# Altium schematic symbol library ulysses_library.SchLib: 185 symbols (part 1 of 2)
Pins are listed as number, name and electrical type; pins without a type are passive.

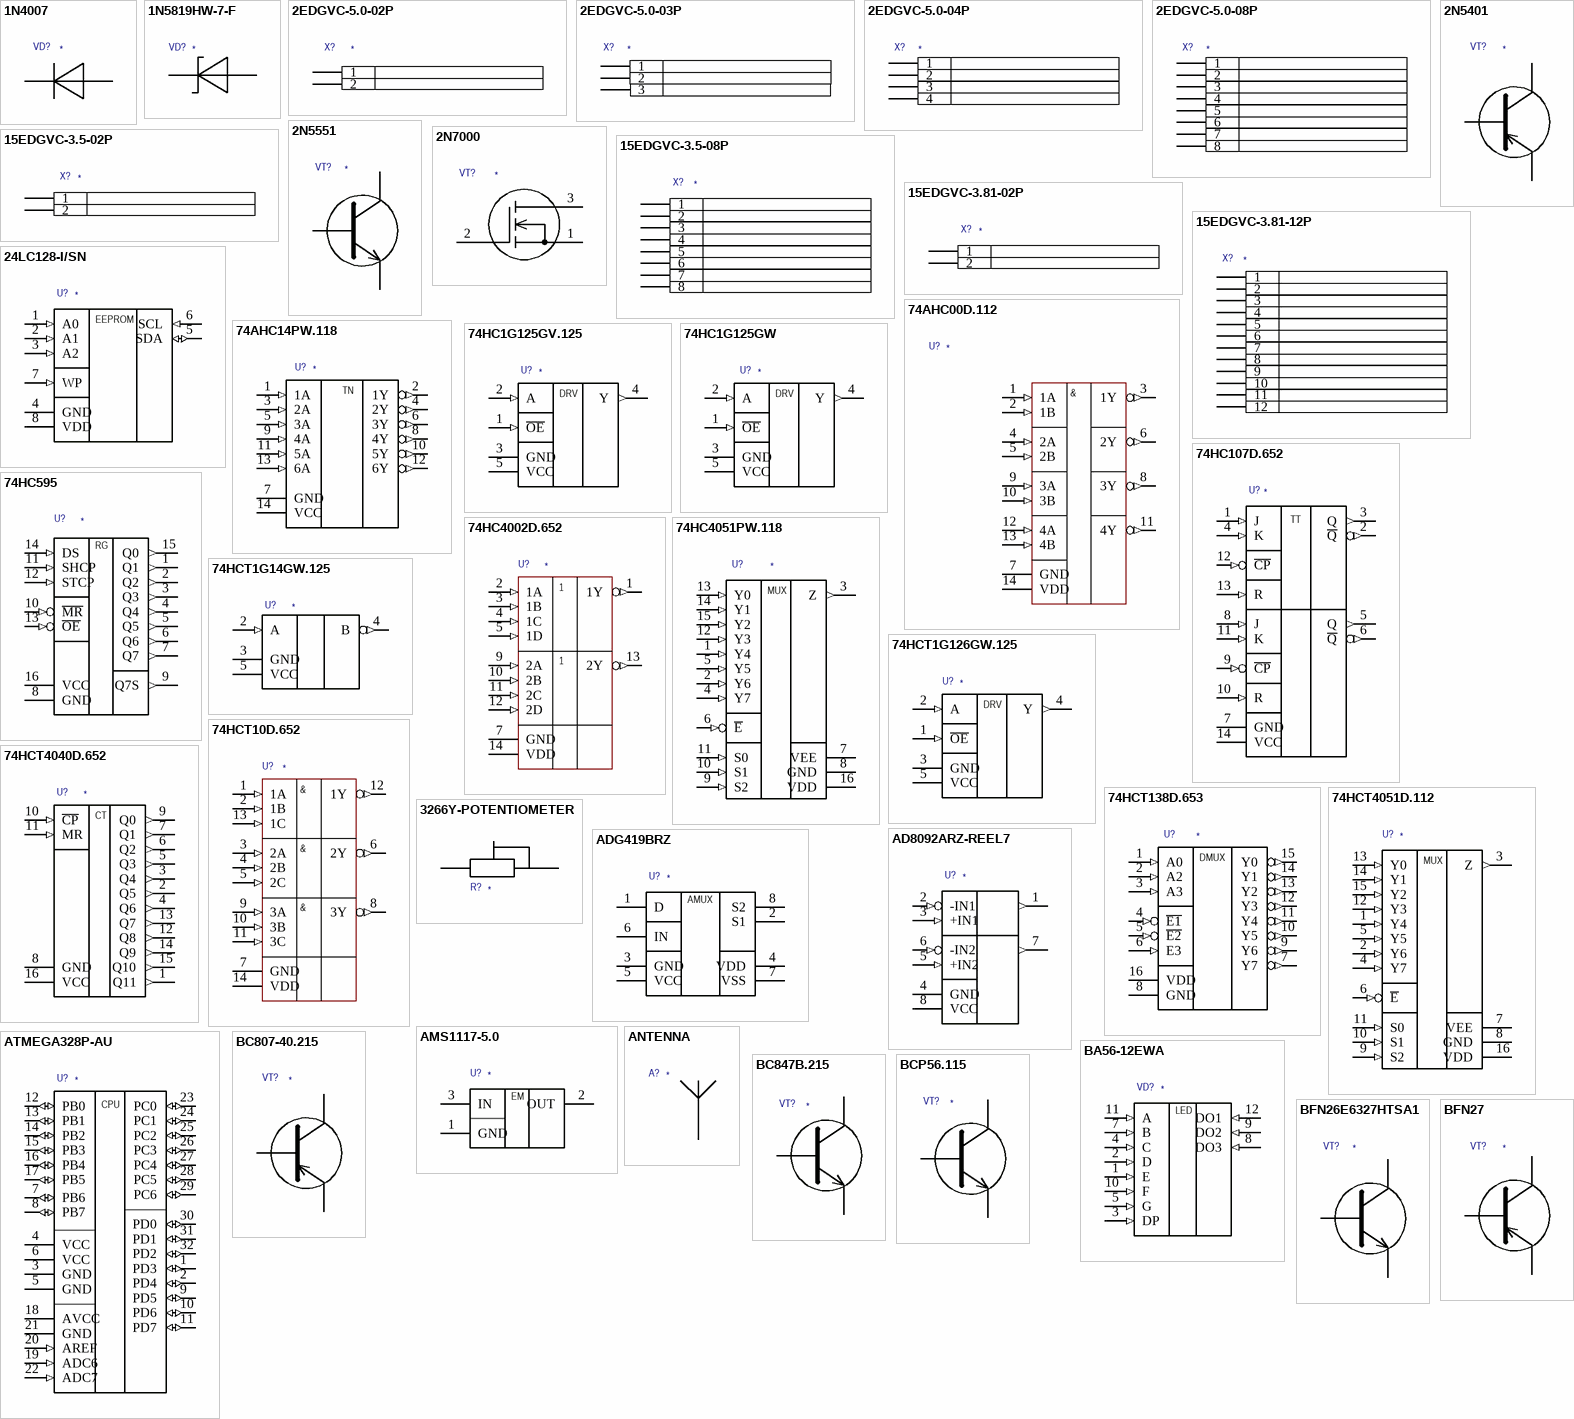
[diagram p0: symbols 1N4007 to BFN27]

## 1N4007
designator VD?
footprint P6KE27CA
pins: A, K

## 1N5819HW-7-F
designator VD?
Диод Шоттки; Ref: http://www.kosmodrom.com.ua/el.php?name=1N5819HW-7-F
footprint SODFL370X135-2N (SODFL, 2-Leads, Body 1,55x3,70mm, IPC Medium Density)
pins: 1 C, 2 A

## 2EDGVC-5.0-02P
designator X?
footprint 2EDGVC-5.0-02P
pins: 1, 2

## 2EDGVC-5.0-03P
designator X?
footprint 2EDGVC-5.0-03P
pins: 1, 2, 3

## 2EDGVC-5.0-04P
designator X?
footprint 2EDGVC-5.0-04P
pins: 1, 2, 3, 4

## 2EDGVC-5.0-08P
designator X?
footprint 2EDGVC-5.0-08P
pins: 1, 2, 3, 4, 5, 6, 7, 8

## 2N5401
designator VT?
PNP биполярный транзистор
footprint TO-92
pins: 1 E (power), 2 B (power), 3 C (power)

## 2N5551
designator VT?
NPN биполярный транзистор
footprint TO-92
pins: 1 E (power), 2 B (power), 3 C (power)

## 2N7000
designator VT?
N MOSFET
footprint TO-92
pins: 1 S (power), 2 G (power), 3 D (power)

## 15EDGVC-3.5-02P
designator X?
footprint 15EDGVC-3.5-02P
pins: 1, 2

## 15EDGVC-3.5-08P
designator X?
footprint 15EDGVC-3.5-08P
pins: 1, 2, 3, 4, 5, 6, 7, 8

## 15EDGVC-3.81-02P
designator X?
footprint 15EDGVC-3.81-02P
pins: 1, 2

## 15EDGVC-3.81-12P
designator X?
footprint 15EDGVC-3.81-12P
pins: 1, 2, 3, 4, 5, 6, 7, 8, 9, 10, 11, 12

## 24LC128-I/SN
designator U?
Микросхема EEPROM 16Kx8; Ref: http://www.kosmodrom.com.ua/el.php?name=24LC128-I_SN
footprint SOIC127P600X175-8N (SOIC, 8-Leads, Body 4,90x3,90mm, Pitch 1,27mm, IPC Medium Density)
pins: 1 A0 (in), 2 A1 (in), 3 A2 (in), 4 GND (power), 5 SDA (io), 6 SCL (in), 7 WP (in), 8 VDD (power)
text: EEPROM

## 74AHC00D.112
designator U?
2И-НЕ 4 ВЕНТИЛЯ
footprint SOIC127P600X175-14N (SOIC, 14-Leads, Body 8,65x3,90mm, Pitch 1,27mm, IPC Medium Density)
pins: 1 1A (in), 2 1B (in), 3 1Y (out), 4 2A (in), 5 2B (in), 6 2Y (out), 7 GND (power), 8 3Y (out), 9 3A (in), 10 3B (in), 11 4Y (out), 12 4A (in), 13 4B (in), 14 VDD (power)
text: &

## 74AHC14PW.118
designator U?
6 триггеров Шмитта
footprint TSOP65P640X110-14N (TSOP, 14-Leads, Body 5,00x4,40mm, Pitch 0,65mm, IPC Medium Density)
pins: 1 1A (in), 2 1Y (out), 3 2A (in), 4 2Y (out), 5 3A (in), 6 3Y (out), 7 GND (power), 8 4Y (out), 9 4A (in), 10 5Y (out), 11 5A (in), 12 6Y (out), 13 6A (in), 14 VCC (power)
text: TN

## 74HC1G125GV.125
designator U?
Line driver; Ref: http://www.kosmodrom.com.ua/el.php?name=74HC1G125GV.125
footprint SOT95P275X110-5N (SOT23, 5-Leads, Body 2,90x2,75mm, Pitch 0,95mm, IPC Medium Density)
pins: 1 ~{OE} (in), 2 A (in), 3 GND (power), 4 Y (out), 5 VCC (power)
text: DRV

## 74HC1G125GW
designator U?
Three state line driver; Ref: http://www.kosmodrom.com.ua/prodlist.php?page=0&name=74HC1G125GW&okbutton=%CF%EE%E8%F1%EA+%EF%EE+%F1%EA%EB%E0%E4%F3
footprint SOT65P212X110-5N (SOT23, 5-Leads, Body 2.03x2.13mm, Pitch 0.65mm, IPC Medium Density)
pins: 1 ~{OE} (in), 2 A (in), 3 GND (power), 4 Y (out), 5 VCC (power)
text: DRV

## 74HC107D.652
designator U?
Интегральная схема JK-триггер; Ref: http://www.kosmodrom.com.ua/el.php?name=74HC107D.652
footprint SOIC127P600X175-14N (SOIC, 14-Leads, Body 8,65x3,90mm, Pitch 1,27mm, IPC Medium Density)
pins: 1 J (in), 2 ~{Q} (out), 3 Q (out), 4 K (in), 5 Q (out), 6 ~{Q} (out), 7 GND (power), 8 J (in), 9 ~{CP} (in), 10 R (in), 11 K (in), 12 ~{CP} (in), 13 R (in), 14 VCC (power)
text: TT

## 74HC595
designator U?
footprint TSOP65P640X120-16N (TSOP, 16-Leads, Body 5.00x4.40mm, Pitch 0.65mm, IPC Medium Density)
footprint SOP127P700X210-16N (SOP, 16-Leads, Body 10.30x4.40mm, Pitch 1.27mm, IPC Medium Density)
pins: 1 Q1 (out), 2 Q2 (out), 3 Q3 (out), 4 Q4 (out), 5 Q5 (out), 6 Q6 (out), 7 Q7 (out), 8 GND (power), 9 Q7S (out), 10 ~{MR} (in), 11 SHCP (in), 12 STCP (in), 13 ~{OE} (in), 14 DS (in), 15 Q0 (out), 16 VCC (power)
text: RG

## 74HC4002D.652
designator U?
footprint SOIC127P600X175-14N (SOIC, 14-Leads, Body 8,65x3,90mm, Pitch 1,27mm, IPC Medium Density)
pins: 1 1Y (out), 2 1A (in), 3 1B (in), 4 1C (in), 5 1D (in), 7 GND (power), 9 2A (in), 10 2B (in), 11 2C (in), 12 2D (in), 13 2Y (out), 14 VDD (power)

## 74HC4051PW.118
designator U?
footprint TSOP65P640X120-16N (TSOP, 16-Leads, Body 5.00x4.40mm, Pitch 0.65mm, IPC Medium Density)
pins: 1 Y4 (in), 2 Y6 (in), 3 Z (out), 4 Y7 (in), 5 Y5 (in), 6 ~{E} (in), 7 VEE (power), 8 GND (power), 9 S2 (in), 10 S1 (in), 11 S0 (in), 12 Y3 (in), 13 Y0 (in), 14 Y1 (in), 15 Y2 (in), 16 VDD (power)
text: MUX

## 74HCT1G14GW.125
designator U?
инвертирующий триггер Шмитта
footprint SOT65P210X110-5N (SOT23, 5-Leads, Body 2,00x2,10mm, Pitch 0,65mm, IPC Medium Density)
pins: 2 A (in), 3 GND (power), 4 B (out), 5 VCC (power)

## 74HCT1G126GW.125
designator U?
footprint SOT65P212X110-5N (SOT23, 5-Leads, Body 2.03x2.13mm, Pitch 0.65mm, IPC Medium Density)
pins: 1 ~{OE} (in), 2 A (in), 3 GND (power), 4 Y (out), 5 VCC (power)
text: DRV

## 74HCT10D.652
designator U?
footprint SOIC127P600X175-14N (SOIC, 14-Leads, Body 8,65x3,90mm, Pitch 1,27mm, IPC Medium Density)
pins: 1 1A (in), 2 1B (in), 3 2A (in), 4 2B (in), 5 2C (in), 6 2Y (out), 7 GND (power), 8 3Y (out), 9 3A (in), 10 3B (in), 11 3C (in), 12 1Y (out), 13 1C (in), 14 VDD (power)
text: &

## 74HCT138D.653
designator U?
footprint SOP127P700X210-16N (SOP, 16-Leads, Body 10.30x4.40mm, Pitch 1.27mm, IPC Medium Density)
pins: 1 A0 (in), 2 A2 (in), 3 A3 (in), 4 ~{E1} (in), 5 ~{E2} (in), 6 E3 (in), 7 Y7 (out), 8 GND (power), 9 Y6 (out), 10 Y5 (out), 11 Y4 (out), 12 Y3 (out), 13 Y2 (out), 14 Y1 (out), 15 Y0 (out), 16 VDD (power)
text: DMUX

## 74HCT4040D.652
designator U?
Двоичный счетчик
footprint SOP127P700X210-16N (SOP, 16-Leads, Body 10.30x4.40mm, Pitch 1.27mm, IPC Medium Density)
pins: 1 Q11 (out), 2 Q5 (out), 3 Q4 (out), 4 Q6 (out), 5 Q3 (out), 6 Q2 (out), 7 Q1 (out), 8 GND, 9 Q0 (out), 10 ~{CP} (in), 11 MR (in), 12 Q8 (out), 13 Q7 (out), 14 Q9 (out), 15 Q10 (out), 16 VCC
text: CT

## 74HCT4051D.112
designator U?
8 channel multiplexer
footprint SOP127P700X210-16N (SOP, 16-Leads, Body 10.30x4.40mm, Pitch 1.27mm, IPC Medium Density)
pins: 1 Y4 (in), 2 Y6 (in), 3 Z (out), 4 Y7 (in), 5 Y5 (in), 6 ~{E} (in), 7 VEE (power), 8 GND (power), 9 S2 (in), 10 S1 (in), 11 S0 (in), 12 Y3 (in), 13 Y0 (in), 14 Y1 (in), 15 Y2 (in), 16 VDD (power)
text: MUX

## 3266Y-POTENTIOMETER
designator R?
footprint 3266Y
pins: 1, 2, 3

## AD8092ARZ-REEL7
designator U?
Сдвоенный быстродействующий ОУ
footprint SOIC127P600X175-8N (SOIC, 8-Leads, Body 4,90x3,90mm, Pitch 1,27mm, IPC Medium Density)
pins: 1 OUT1 (out), 2 -IN1 (in), 3 +IN1 (in), 4 GND (power), 5 +IN2 (in), 6 -IN2 (in), 7 OUT2 (out), 8 VCC (power)

## ADG419BRZ
designator U?
Ключ аналоговый
footprint SOIC127P600X175-8N (SOIC, 8-Leads, Body 4,90x3,90mm, Pitch 1,27mm, IPC Medium Density)
pins: 1 D, 2 S1, 3 GND, 4 VDD, 5 VCC, 6 IN, 7 VSS, 8 S2
text: AMUX

## AMS1117-5.0
designator U?
Power regulator
footprint SOT230P700X180-4N (SOT223, 4-Leads, Body 6.50x7.00mm (avg), Pitch 2.30mm, IPC Medium Density)
pins: 1 GND (power), 2 OUT (power), 3 IN (power)
text: EM

## ANTENNA
designator A?
footprint GPS ANTENNA
footprint ANT9520X13N (SMT Antenna, 2-Leads, Body 9,50x2,00mm, IPC Medium Density)
pins: 1

## ATMEGA328P-AU
designator U?
AVR microcontroller
footprint TQFP80P900X900X160-32N (TQFP, 32-Leads, Body 7,00x7,00mm, Pitch 0,80mm, IPC Medium Density)
pins: 1 PD3 (io), 2 PD4 (io), 3 GND (power), 4 VCC (power), 5 GND (power), 6 VCC (power), 7 PB6 (io), 8 PB7 (io), 9 PD5 (io), 10 PD6 (io), 11 PD7 (io), 12 PB0 (io), 13 PB1 (io), 14 PB2 (io), 15 PB3 (io), 16 PB4 (io), 17 PB5 (io), 18 AVCC (power), 19 ADC6 (in), 20 AREF (in), 21 GND (power), 22 ADC7 (in), 23 PC0 (io), 24 PC1 (io), 25 PC2 (io), 26 PC3 (io), 27 PC4 (io), 28 PC5 (io), 29 PC6 (io), 30 PD0 (io), 31 PD1 (io), 32 PD2 (io)
text: CPU

## BA56-12EWA
designator VD?
footprint BA56-12
pins: 1 E (in), 2 D (in), 3 DP (in), 4 C (in), 5 G (in), 7 B (in), 8 DO3 (in), 9 DO2 (in), 10 F (in), 11 A (in), 12 DO1 (in)
text: LED

## BC807-40.215
designator VT?
PNP[ transistor
footprint SOT95P237X112-3N (SOT23, 3-Leads, Body 2,92x2,37mm, Pitch 0,95mm, IPC Medium Density)
pins: 1 B (power), 2 E (power), 3 C (power)

## BC847B.215
designator VT?
NPN биполярный транзистор; Ref: http://www.kosmodrom.com.ua/el.php?name=BC847W.115
footprint SOT95P237X112-3N (SOT23, 3-Leads, Body 2,92x2,37mm, Pitch 0,95mm, IPC Medium Density)
pins: 1 B (power), 2 E (power), 3 C (power)

## BCP56.115
designator VT?
NPN биполярный транзистор; Ref: http://www.kosmodrom.com.ua/el.php?name=BCP56.115
footprint SOT230P700X180-4N (SOT223, 4-Leads, Body 6.50x7.00mm (avg), Pitch 2.30mm, IPC Medium Density)
pins: 1 B (power), 2 E (power), 3 C (power)

## BFN26E6327HTSA1
designator VT?
NPN биполярный транзистор
footprint SOT95P237X112-3N (SOT23, 3-Leads, Body 2,92x2,37mm, Pitch 0,95mm, IPC Medium Density)
pins: 1 B (power), 2 E (power), 3 C (power)

## BFN27
designator VT?
PNP биполярный транзистор
footprint SOT95P237X112-3N (SOT23, 3-Leads, Body 2,92x2,37mm, Pitch 0,95mm, IPC Medium Density)
pins: 1 B (power), 2 E (power), 3 C (power)

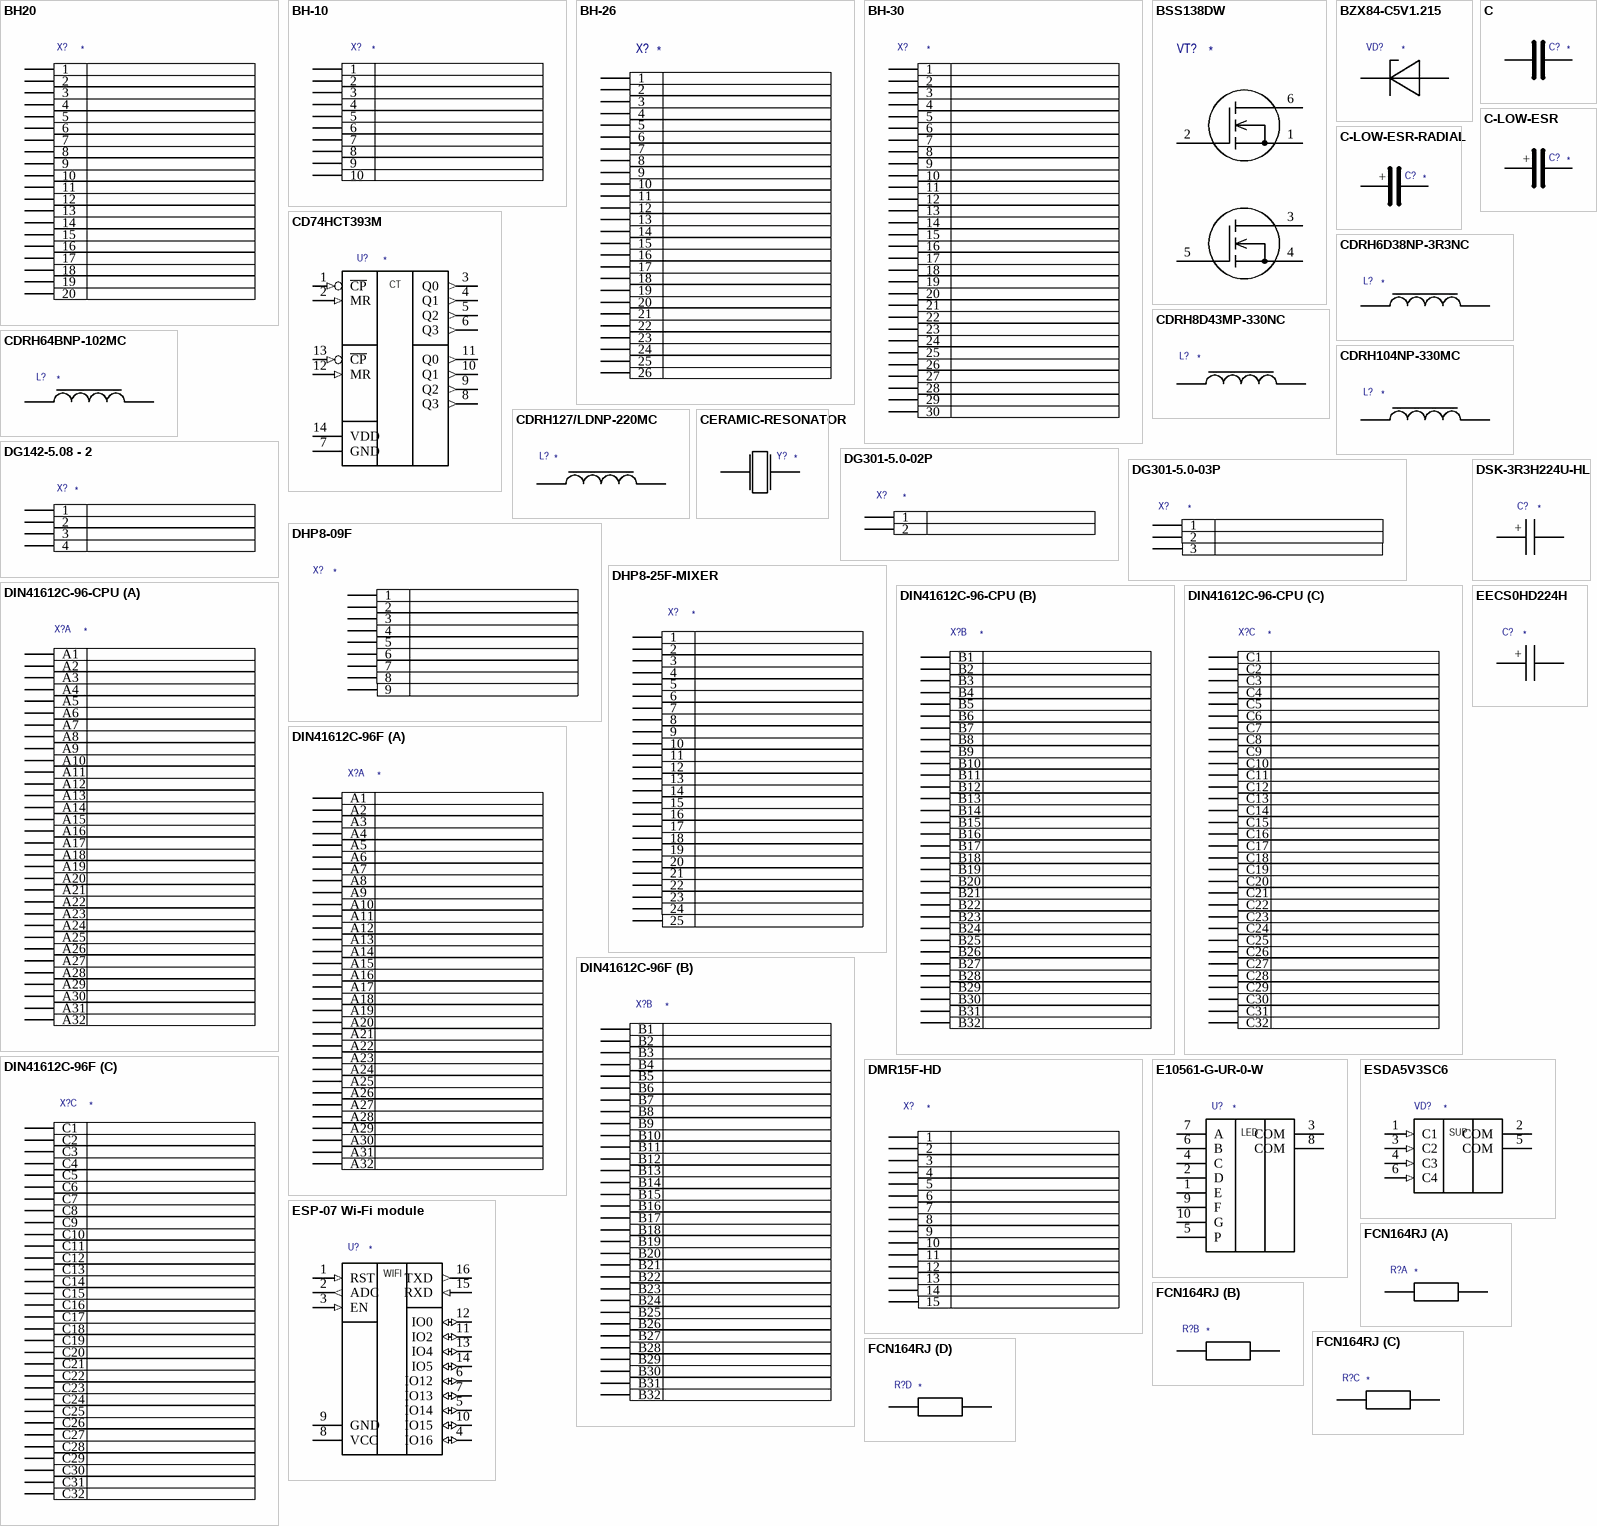
[diagram p1: symbols BH20 to FCN164RJ]

## BH20
designator X?
footprint BH-20-JTAG
pins: 1, 2, 3, 4, 5, 6, 7, 8, 9, 10, 11, 12, 13, 14, 15, 16, 17, 18, 19, 20

## BH-10
designator X?
footprint BH-10
pins: 1, 2, 3, 4, 5, 6, 7, 8, 9, 10

## BH-26
designator X?
footprint BH-26
pins: 1, 2, 3, 4, 5, 6, 7, 8, 9, 10, 11, 12, 13, 14, 15, 16, 17, 18, 19, 20, 21, 22, 23, 24, 25, 26

## BH-30
designator X?
footprint BH-30
pins: 1, 2, 3, 4, 5, 6, 7, 8, 9, 10, 11, 12, 13, 14, 15, 16, 17, 18, 19, 20, 21, 22, 23, 24, 25, 26, 27, 28, 29, 30

## BSS138DW
designator VT?
2 x MOSFET; Ref: http://www.kosmodrom.com.ua/el.php?name=BSS138DW-7-F
footprint SOT65P210X110-6N (SOT23, 6-Leads, Body 2.00x2.10mm, Pitch 0.65mm, IPC Medium Density)
pins: 1 S1 (power), 2 G1 (power), 3 D2 (power), 4 S2 (power), 5 G2 (power), 6 D1 (power)

## BZX84-C5V1.215
designator VD?
Стабилитрон 5.1В
footprint SOT95P237X112-3N (SOT23, 3-Leads, Body 2,92x2,37mm, Pitch 0,95mm, IPC Medium Density)
pins: 1 A, 3 K

## C
designator C?
SMD конденсатор; Ref: http://www.kosmodrom.com.ua/prodlist.php?name=cap1206
footprint CAPC1608X05N (Chip Capacitor, 2-Leads, Body 1,60x0,80mm, IPC Medium Density)
footprint CAPC2012X04N (Chip Capacitor, 2-Leads, Body 2,00x1,20mm, IPC Medium Density)
footprint CAPC3216X05N (Chip Capacitor, 2-Leads, Body 3,20x1,60mm, IPC Medium Density)
footprint C-FILM-THM-7.5
pins: 1, 2

## C-LOW-ESR
designator C?
Электролитический конденсатор; Ref: http://www.kosmodrom.com.ua/el.php?name=ECAPSMD220MKF35VRC10X10
footprint CAPAE7166X77M (Aluminum Electrolytic Capacitor, Body 6,60x6,60x7,70mm, IPC Low Density)
footprint CAPAE8983X100M (Aluminum Electrolytic Capacitor, Body 8.30x8.30x10.00mm, IPC Low Density)
footprint CAPAE111103X100M (Aluminum Electrolytic Capacitor, Body 10.30x10.30x10.00mm, IPC Low Density)
pins: 1 +, 2

## C-LOW-ESR-RADIAL
designator C?
Выводной электролит
footprint C-LOW-ESR-10-12.5
footprint C-LOW-ESR-16-18
footprint C-LOW-ESR-8
pins: 1 +, 2

## CD74HCT393M
designator U?
4-bit binary counter
footprint SOIC127P600X175-14N (SOIC, 14-Leads, Body 8,65x3,90mm, Pitch 1,27mm, IPC Medium Density)
pins: 1 ~{CP} (in), 2 MR (in), 3 Q0 (out), 4 Q1 (out), 5 Q2 (out), 6 Q3 (out), 7 GND (power), 8 Q3 (out), 9 Q2 (out), 10 Q1 (out), 11 Q0 (out), 12 MR (in), 13 ~{CP} (in), 14 VDD (power)
text: CT

## CDRH6D38NP-3R3NC
designator L?
SMD индуктор; Ref: http://www.kosmodrom.com.ua/el.php?name=CDRH6D38NP-3R3NC
footprint INDP6767X38N (Precision Wire Wound Inductor, 2-Leads, Body 6,70x6,70mm, IPC Medium Density)
pins: 1, 2

## CDRH8D43MP-330NC
designator L?
SMD inductor 33 мкГн 1.4A
footprint INDP8080X45N (Precision Wire Wound Inductor, 2-Leads, Body 8.00x8.00mm, IPC Medium Density)
pins: 1, 2

## CDRH64BNP-102MC
designator L?
SMD inductor
footprint INDP6259X50N (Precision Wire Wound Inductor, 2-Leads, Body 6,20x5,90mm, IPC Medium Density)
pins: 1, 2

## CDRH104NP-330MC
designator L?
SMD индуктор; Ref: http://www.kosmodrom.com.ua/el.php?name=CDRH104NP-330MC
footprint INDP9898X50N (Precision Wire Wound Inductor, 2-Leads, Body 9,80x9,80mm, IPC Medium Density)
pins: 1, 2

## CDRH127/LDNP-220MC
designator L?
SMD индуктор; Ref: http://www.kosmodrom.com.ua/el.php?name=CDRH127_LDNP-220MC
footprint INDP120120X80N (Precision Wire Wound Inductor, 2-Leads, Body 12.00x12.00mm, IPC Medium Density)
pins: 1, 2

## CERAMIC-RESONATOR
designator Y?
Кварцевый резонатор; Ref( 8MHz): http://www.kosmodrom.com.ua/el.php?name=KX-13-8.0-MHz; Ref (6MHz): http://www.kosmodrom.com.ua/el.php?name=KX-13%206.0%20MHz
footprint KX-13
footprint HC49U
footprint HC49LT
pins: 1, 2

## DG142-5.08 - 2
designator X?
Разъем монтажный; Ref: http://www.kosmodrom.com.ua/el.php?name=DG142R-5.08-02P-14-00AH
footprint DG142R-5.08-2
pins: 1, 2, 3, 4

## DG301-5.0-02P
designator X?
footprint DG301-5.0-2P
pins: 1, 2

## DG301-5.0-03P
designator X?
footprint DG301-5.0-03P
pins: 1, 2, 3

## DHP8-09F
designator X?
footprint DHP8-09F
pins: 1, 2, 3, 4, 5, 6, 7, 8, 9

## DHP8-25F-MIXER
designator X?
D-SUB 25pin female; Ref: http://www.kosmodrom.com.ua/el.php?name=DHP8-25F
footprint DHP8-25F
pins: 1, 2, 3, 4, 5, 6, 7, 8, 9, 10, 11, 12, 13, 14, 15, 16, 17, 18, 19, 20, 21, 22, 23, 24, 25

## DIN41612C-96-CPU
designator X?
footprint DIN41612C-96M
part A pins: A1, A2, A3, A4, A5, A6, A7, A8, A9, A10, A11, A12, A13, A14, A15, A16, A17, A18, A19, A20, A21, A22, A23, A24, A25, A26, A27, A28, A29, A30, A31, A32
part B pins: B1, B2, B3, B4, B5, B6, B7, B8, B9, B10, B11, B12, B13, B14, B15, B16, B17, B18, B19, B20, B21, B22, B23, B24, B25, B26, B27, B28, B29, B30, B31, B32
part C pins: C1, C2, C3, C4, C5, C6, C7, C8, C9, C10, C11, C12, C13, C14, C15, C16, C17, C18, C19, C20, C21, C22, C23, C24, C25, C26, C27, C28, C29, C30, C31, C32

## DIN41612C-96F
designator X?
footprint DIN41612C-96F
part A pins: A1, A2, A3, A4, A5, A6, A7, A8, A9, A10, A11, A12, A13, A14, A15, A16, A17, A18, A19, A20, A21, A22, A23, A24, A25, A26, A27, A28, A29, A30, A31, A32
part B pins: B1, B2, B3, B4, B5, B6, B7, B8, B9, B10, B11, B12, B13, B14, B15, B16, B17, B18, B19, B20, B21, B22, B23, B24, B25, B26, B27, B28, B29, B30, B31, B32
part C pins: C1, C2, C3, C4, C5, C6, C7, C8, C9, C10, C11, C12, C13, C14, C15, C16, C17, C18, C19, C20, C21, C22, C23, C24, C25, C26, C27, C28, C29, C30, C31, C32

## DMR15F-HD
designator X?
footprint DMR15F-HD
pins: 1, 2, 3, 4, 5, 6, 7, 8, 9, 10, 11, 12, 13, 14, 15

## DSK-3R3H224U-HL
designator C?
SUPER CAPASITOR
footprint DSK-3R3H224U-HL
pins: 1 +, 2

## E10561-G-UR-0-W
designator U?
7-SEGMENT LED ARRAY
footprint E10561
pins: 1 E, 2 D, 3 COM, 4 C, 5 P, 6 B, 7 A, 8 COM, 9 F, 10 G
text: LED

## EECS0HD224H
designator C?
SUPERCAPACITOR
footprint EECS0
pins: 1 +, 2

## ESDA5V3SC6
designator VD?
4-channel supressor
footprint SOT95P280X110-6N (SOT23, 6-Leads, Body 2,92x2,80mm, Pitch 0,95mm, IPC Medium Density)
pins: 1 C1 (in), 2 COM, 3 C2 (in), 4 C3 (in), 5 COM, 6 C4 (in)
text: SUP

## ESP-07 Wi-Fi module
designator U?
WIFI модуль; Ref: http://www.kosmodrom.com.ua/el.php?name=ESP8266-ESP-07
footprint ESP-07
pins: 1 RST (in), 2 ADC (out), 3 EN (in), 4 IO16 (io), 5 IO14 (io), 6 IO12 (io), 7 IO13 (io), 8 VCC (power), 9 GND (power), 10 IO15 (io), 11 IO2 (io), 12 IO0 (io), 13 IO4 (io), 14 IO5 (io), 15 RXD (in), 16 TXD (out)
text: WIFI

## FCN164RJ
designator R?
Resistor array
footprint CAC-80P319X159-8N (Chip Array, Concave, 8-Leads, Pitch 0,80mm,  Body 3,20x1,60mm,  IPC Medium Density)
part A pins: 1, 8 2
part B pins: 2, 7 2
part C pins: 3, 6 2
part D pins: 4, 5 2

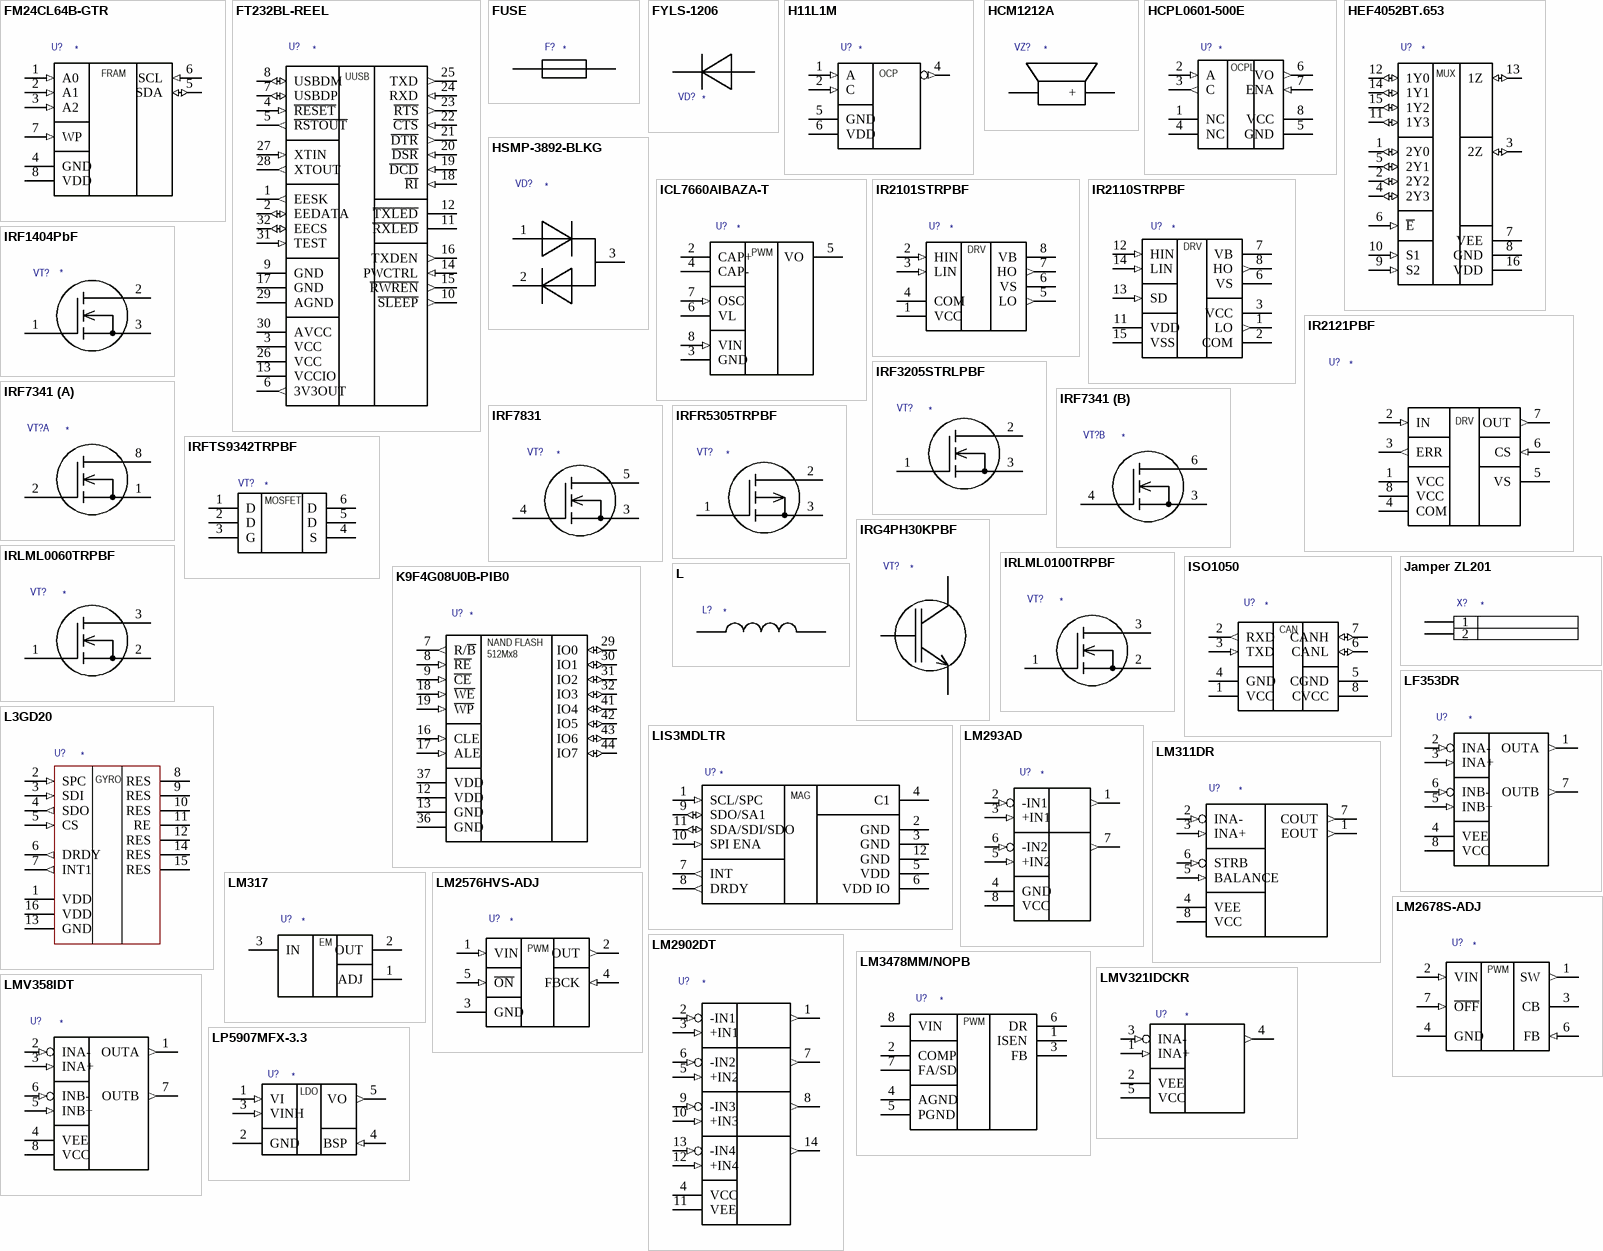
[diagram p2: symbols FM24CL64B-GTR to LP5907MFX-3.3]

## FM24CL64B-GTR
designator U?
footprint SOIC127P600X175-8N (SOIC, 8-Leads, Body 4,90x3,90mm, Pitch 1,27mm, IPC Medium Density)
pins: 1 A0 (in), 2 A1 (in), 3 A2 (in), 4 GND (power), 5 SDA (io), 6 SCL (in), 7 WP (in), 8 VDD (power)
text: FRAM

## FT232BL-REEL
designator U?
USB-USART адаптер; Ref: http://www.kosmodrom.com.ua/el.php?name=FT232BL
footprint TQFP80P900X900X160-32N (TQFP, 32-Leads, Body 7,00x7,00mm, Pitch 0,80mm, IPC Medium Density)
pins: 1 EESK (out), 2 EEDATA (io), 3 VCC (power), 4 ~{RESET} (in), 5 ~{RSTOUT} (out), 6 3V3OUT (out), 7 USBDP (io), 8 USBDM (io), 9 GND (power), 10 ~{SLEEP} (out), 11 ~{RXLED} (oc), 12 ~{TXLED} (oc), 13 VCCIO (power), 14 PWCTRL (in), 15 ~{RWREN} (out), 16 TXDEN (out), 17 GND (power), 18 ~{RI} (in), 19 ~{DCD} (in), 20 ~{DSR} (in), 21 ~{DTR} (out), 22 ~{CTS} (in), 23 ~{RTS} (out), 24 RXD (in), 25 TXD (out), 26 VCC (power), 27 XTIN (in), 28 XTOUT (out), 29 AGND (power), 30 AVCC (power), 31 TEST (in), 32 EECS (io)
text: UUSB

## FUSE
designator F?
Вставка плавкая; Ref: http://www.kosmodrom.com.ua/el.php?name=RFT-2.5A
footprint MRT-FUSE
pins: 1, 2

## FYLS-1206
designator VD?
Светодиод; Ref: http://www.kosmodrom.com.ua/prodlist.php?page=0&name=FYLS-1206&okbutton=%CF%EE%E8%F1%EA+%EF%EE+%F1%EA%EB%E0%E4%F3
footprint CAPMP3216X11N (Molded Capacitor, 2-Leads, Body 3,20x1,60mm, IPC Medium Density)
pins: 1 C (power), 2 A (power)

## H11L1M
designator U?
Fairchild H11L1M Schmitt Trigger Output Optocoupler; Ref: http://www.kosmodrom.com.ua/el.php?name=H11L1M
footprint DIP6
footprint SOT255P917X508-6N (SOT23, 6-Leads, Body 8,51x9,17mm, Pitch 2,55mm, IPC Medium Density)
pins: 1 A (in), 2 C (in), 4 OUT (out), 5 GND (power), 6 VDD (power)
text: OCP

## HCM1212A
designator VZ?
footprint HCM1212A
pins: 1, 2 +

## HCPL0601-500E
designator U?
footprint SOIC127P600X175-8N (SOIC, 8-Leads, Body 4,90x3,90mm, Pitch 1,27mm, IPC Medium Density)
pins: 1 NC, 2 A (in), 3 C (out), 4 NC, 5 GND (power), 6 VO (out), 7 ENA (in), 8 VCC (power)
text: OCPL

## HEF4052BT.653
designator U?
2 4x1 multiplexer/demultiplexer
footprint SOP127P700X210-16N (SOP, 16-Leads, Body 10.30x4.40mm, Pitch 1.27mm, IPC Medium Density)
pins: 1 2Y0 (io), 2 2Y2 (io), 3 2Z (io), 4 2Y3 (io), 5 2Y1 (io), 6 ~{E} (in), 7 VEE (power), 8 GND (power), 9 S2 (in), 10 S1 (in), 11 1Y3 (io), 12 1Y0 (io), 13 1Z (io), 14 1Y1 (io), 15 1Y2 (io), 16 VDD (power)
text: MUX

## HSMP-3892-BLKG
designator VD?
P-I-N switching diode
footprint SOT95P238X102-3N (SOT23, 3-Leads, Body 2,93x2,38mm, Pitch 0,95mm, IPC Medium Density)
pins: 1, 2, 3

## ICL7660AIBAZA-T
designator U?
DC negative converter
footprint SOIC127P600X175-8N (SOIC, 8-Leads, Body 4,90x3,90mm, Pitch 1,27mm, IPC Medium Density)
pins: 2 CAP+ (power), 3 GND (power), 4 CAP- (power), 5 VO (power), 6 VL (power), 7 OSC (in), 8 VIN (in)
text: PWM

## IR2101STRPBF
designator U?
Драйвер MOSFET
footprint SOIC127P600X175-8N (SOIC, 8-Leads, Body 4,90x3,90mm, Pitch 1,27mm, IPC Medium Density)
pins: 1 VCC (power), 2 HIN (in), 3 LIN (in), 4 COM (power), 5 LO (out), 6 VS (power), 7 HO (out), 8 VB (power)
text: DRV

## IR2110STRPBF
designator U?
MOSFET driver
footprint SOIC127P1030X265-16N (SOIC, 16-Leads, Body 10,30x7,50mm, Pitch 1,27mm, IPC Medium Density)
pins: 1 LO (out), 2 COM (power), 3 VCC (power), 6 VS (power), 7 VB (power), 8 HO (out), 11 VDD (power), 12 HIN (in), 13 SD (in), 14 LIN (in), 15 VSS (power)
text: DRV

## IR2121PBF
designator U?
IGBT-MOSFET DRIVER
footprint DIP8
pins: 1 VCC (power), 2 IN (in), 3 ERR (out), 4 COM (power), 5 VS (power), 6 CS (in), 7 OUT (out), 8 VCC (power)
text: DRV

## IRF1404PbF
designator VT?
MOSFET N-channel
footprint TO-220
pins: 1 G (power), 2 D (power), 3 S (power)

## IRF3205STRLPBF
designator VT?
N MOSFET
footprint DPAK230P972X240-3N (D-PAK, 3-Pads, Body 6.20x6.66mm (max), IPC Medium Density)
pins: 1 G (power), 2 D (power), 3 S (power)

## IRF7341
designator VT?
Dual N-MOSFET
footprint SOIC127P600X175-8N (SOIC, 8-Leads, Body 4,90x3,90mm, Pitch 1,27mm, IPC Medium Density)
part A pins: 1 S1 (power), 2 G1 (power), 7 D1, 8 D1 (power)
part B pins: 3 S2 (power), 4 G2 (power), 5 D2, 6 D2 (power)

## IRF7831
designator VT?
MOSFET
footprint SOIC127P600X175-8N (SOIC, 8-Leads, Body 4,90x3,90mm, Pitch 1,27mm, IPC Medium Density)
pins: 1 S (power), 2 S (power), 3 S (power), 4 G (power), 5 D (power), 6 D (power), 7 D (power), 8 D (power)

## IRFR5305TRPBF
designator VT?
P-MOSFET 55V 28A
footprint DPAK230P972X240-3N (D-PAK, 3-Pads, Body 6.20x6.66mm (max), IPC Medium Density)
pins: 1 G (power), 2 D (power), 3 S (power)

## IRFTS9342TRPBF
designator VT?
MOSFET-P 30V 5.8A
footprint TSOP95P280X145-6N (TSOP, 6-Leads, Body 2,90x1,63mm, Pitch 0,95mm, IPC Medium Density)
pins: 1 D, 2 D, 3 G, 4 S, 5 D, 6 D
text: MOSFET

## IRG4PH30KPBF
designator VT?
IGBT transistor
footprint TO-247AC
pins: 1 G (power), 2 C (power), 3 E (power)

## IRLML0060TRPBF
designator VT?
N-MOSFET
footprint SOT95P237X112-3N (SOT23, 3-Leads, Body 2,92x2,37mm, Pitch 0,95mm, IPC Medium Density)
pins: 1 G (power), 2 S (power), 3 D (power)

## IRLML0100TRPBF
designator VT?
N MOSFET
footprint SOT95P237X112-3N (SOT23, 3-Leads, Body 2,92x2,37mm, Pitch 0,95mm, IPC Medium Density)
pins: 1 G (power), 2 S (power), 3 D (power)

## ISO1050
designator U?
Драйвер магистрали CAN; Ref: http://www.kosmodrom.com.ua/el.php?name=ISO1050DUBR
footprint SOP254P1040X485-8N (SOP, 8-Leads, Body 9.29x6.62mm, Pitch 2.54mm, IPC Medium Density)
pins: 1 VCC (power), 2 RXD (out), 3 TXD (in), 4 GND (power), 5 CGND, 6 CANL (io), 7 CANH (io), 8 CVCC (power)
text: CAN

## Jamper ZL201
designator X?
footprint ZL201-2
pins: 1, 2

## K9F4G08U0B-PIB0
designator U?
NAND FLASH 512Mx8
footprint TSSOP50P2000X120-48N (TSSOP, 48-Leads, Body 12,05x18,45mm, Pitch 0,50mm, IPC Medium Density)
pins: 7 R/~{B} (out), 8 ~{RE} (in), 9 ~{CE} (in), 12 VDD (power), 13 GND (power), 16 CLE (in), 17 ALE (in), 18 ~{WE} (in), 19 ~{WP} (in), 29 IO0 (io), 30 IO1 (io), 31 IO2 (io), 32 IO3 (io), 36 GND (power), 37 VDD (power), 41 IO4 (io), 42 IO5 (io), 43 IO6 (io), 44 IO7 (io)
text: NAND FLASH; 512Mx8

## L
designator L?
Inductor
footprint INDC1608X09N (Chip Inductor, 2-Leads, Body 1,60x0,80mm, IPC Medium Density)
footprint INDC2012X14N (Chip Inductor, 2-Leads, Body 2,00x1,25mm, IPC Medium Density)
footprint INDC3216X18N (Chip Inductor, 2-Leads, Body 3,20x1,60mm, IPC Medium Density)
footprint INDUCTOR
pins: 1, 2

## L3GD20
designator U?
3-axis gyroscope
footprint PQFN65P400X400X100-16N (PQFN, 16-Leads, Body 4,00x4,00mm, Pitch 0,65mm, IPC Medium Density)
pins: 1 VDD (power), 2 SPC (in), 3 SDI (in), 4 SDO (out), 5 CS (in), 6 DRDY (out), 7 INT1 (out), 8 RES, 9 RES, 10 RES, 11 RE, 12 RES, 13 GND (power), 14 RES, 15 RES, 16 VDD (power)
text: GYRO

## LF353DR
designator U?
footprint SOIC127P600X175-8N (SOIC, 8-Leads, Body 4,90x3,90mm, Pitch 1,27mm, IPC Medium Density)
pins: 1 OUTA (out), 2 INA- (in), 3 INA+ (in), 4 VEE (power), 5 INB+ (in), 6 INB- (in), 7 OUTB (out), 8 VCC (power)

## LIS3MDLTR
designator U?
Digital output magnetic sensor
footprint PQFN50P200X200X100-12N (PQFN, 12-Leads, Body 2,00x2,00mm, Pitch 0,50mm, IPC Medium Density)
pins: 1 SCL/SPC (in), 2 GND, 3 GND (power), 4 C1, 5 VDD (power), 6 VDD IO (power), 7 INT (out), 8 DRDY (out), 9 SDO/SA1 (io), 10 SPI ENA (in), 11 SDA/SDI/SDO (io), 12 GND
text: MAG

## LM293AD
designator U?
Dual differential comparator
footprint SOIC127P600X175-8N (SOIC, 8-Leads, Body 4,90x3,90mm, Pitch 1,27mm, IPC Medium Density)
pins: 1 OUT1 (out), 2 -IN1 (in), 3 +IN1 (in), 4 GND (power), 5 +IN2 (in), 6 -IN2 (in), 7 OUT2 (out), 8 VCC (power)

## LM311DR
designator U?
Компаратор
footprint SOIC127P600X175-8N (SOIC, 8-Leads, Body 4,90x3,90mm, Pitch 1,27mm, IPC Medium Density)
pins: 1 EOUT (out), 2 INA- (in), 3 INA+ (in), 4 VEE (power), 5 BALANCE (in), 6 STRB (in), 7 COUT (out), 8 VCC (power)

## LM317
designator U?
Линейный стабилизатор
footprint SOT230P700X180-4N (SOT223, 4-Leads, Body 6.50x7.00mm (avg), Pitch 2.30mm, IPC Medium Density)
footprint DPAK230P972X240-3N (D-PAK, 3-Pads, Body 6.20x6.66mm (max), IPC Medium Density)
pins: 1 ADJ, 2 OUT, 3 IN
text: EM

## LM2576HVS-ADJ
designator U?
ШИМ регулятор напряжения; Ref: http://www.kosmodrom.com.ua/el.php?name=LM2576S-ADJ
footprint DPAK170P1435X444-6N (D2-PAK, 6-Pads, Body 7,55x8,56mm (max), IPC Medium Density)
pins: 1 VIN (in), 2 OUT (out), 3 GND (power), 4 FBCK (in), 5 ~{ON} (in)
text: PWM

## LM2678S-ADJ
designator U?
ШИМ регулятор напряжения
footprint DPAK127P1435X464-8N (D2-PAK, 8-Pads, Body 7.55x8.56mm (max), IPC Medium Density)
pins: 1 SW (out), 2 VIN (in), 3 CB, 4 GND (power), 6 FB (in), 7 ~{OFF} (in)
text: PWM

## LM2902DT
designator U?
4-channel operational amplifier
footprint SOIC127P600X175-14N (SOIC, 14-Leads, Body 8,65x3,90mm, Pitch 1,27mm, IPC Medium Density)
pins: 1 OUT1 (out), 2 -IN1 (in), 3 +IN1 (in), 4 VCC (power), 5 +IN2 (in), 6 -IN2 (in), 7 OUT2 (out), 8 OUT3 (out), 9 -IN3 (in), 10 +IN3 (in), 11 VEE (power), 12 +IN4 (in), 13 -IN4 (in), 14 OUT4 (out)

## LM3478MM/NOPB
designator U?
footprint TSOP65P490X110-8N (TSOP, 8-Leads, Body 3.00x3.00mm, Pitch 0.65mm, IPC Medium Density)
pins: 1 ISEN, 2 COMP, 3 FB, 4 AGND, 5 PGND, 6 DR, 7 FA/SD, 8 VIN
text: PWM

## LMV321IDCKR
designator U?
Rail-to-rail OA
footprint SOT65P212X110-5N (SOT23, 5-Leads, Body 2.03x2.13mm, Pitch 0.65mm, IPC Medium Density)
pins: 1 INA+ (in), 2 VEE (power), 3 INA- (in), 4 OUTA (out), 5 VCC (power)

## LMV358IDT
designator U?
Сдвоенный ОУ
footprint SOIC127P600X175-8N (SOIC, 8-Leads, Body 4,90x3,90mm, Pitch 1,27mm, IPC Medium Density)
pins: 1 OUTA (out), 2 INA- (in), 3 INA+ (in), 4 VEE (power), 5 INB+ (in), 6 INB- (in), 7 OUTB (out), 8 VCC (power)

## LP5907MFX-3.3
designator U?
5v to 3.3v LDO stabilizer
footprint SOT95P275X110-5N (SOT23, 5-Leads, Body 2,90x2,75mm, Pitch 0,95mm, IPC Medium Density)
pins: 1 VI (in), 2 GND (power), 3 VINH (in), 4 BSP (in), 5 VO (out)
text: LDO

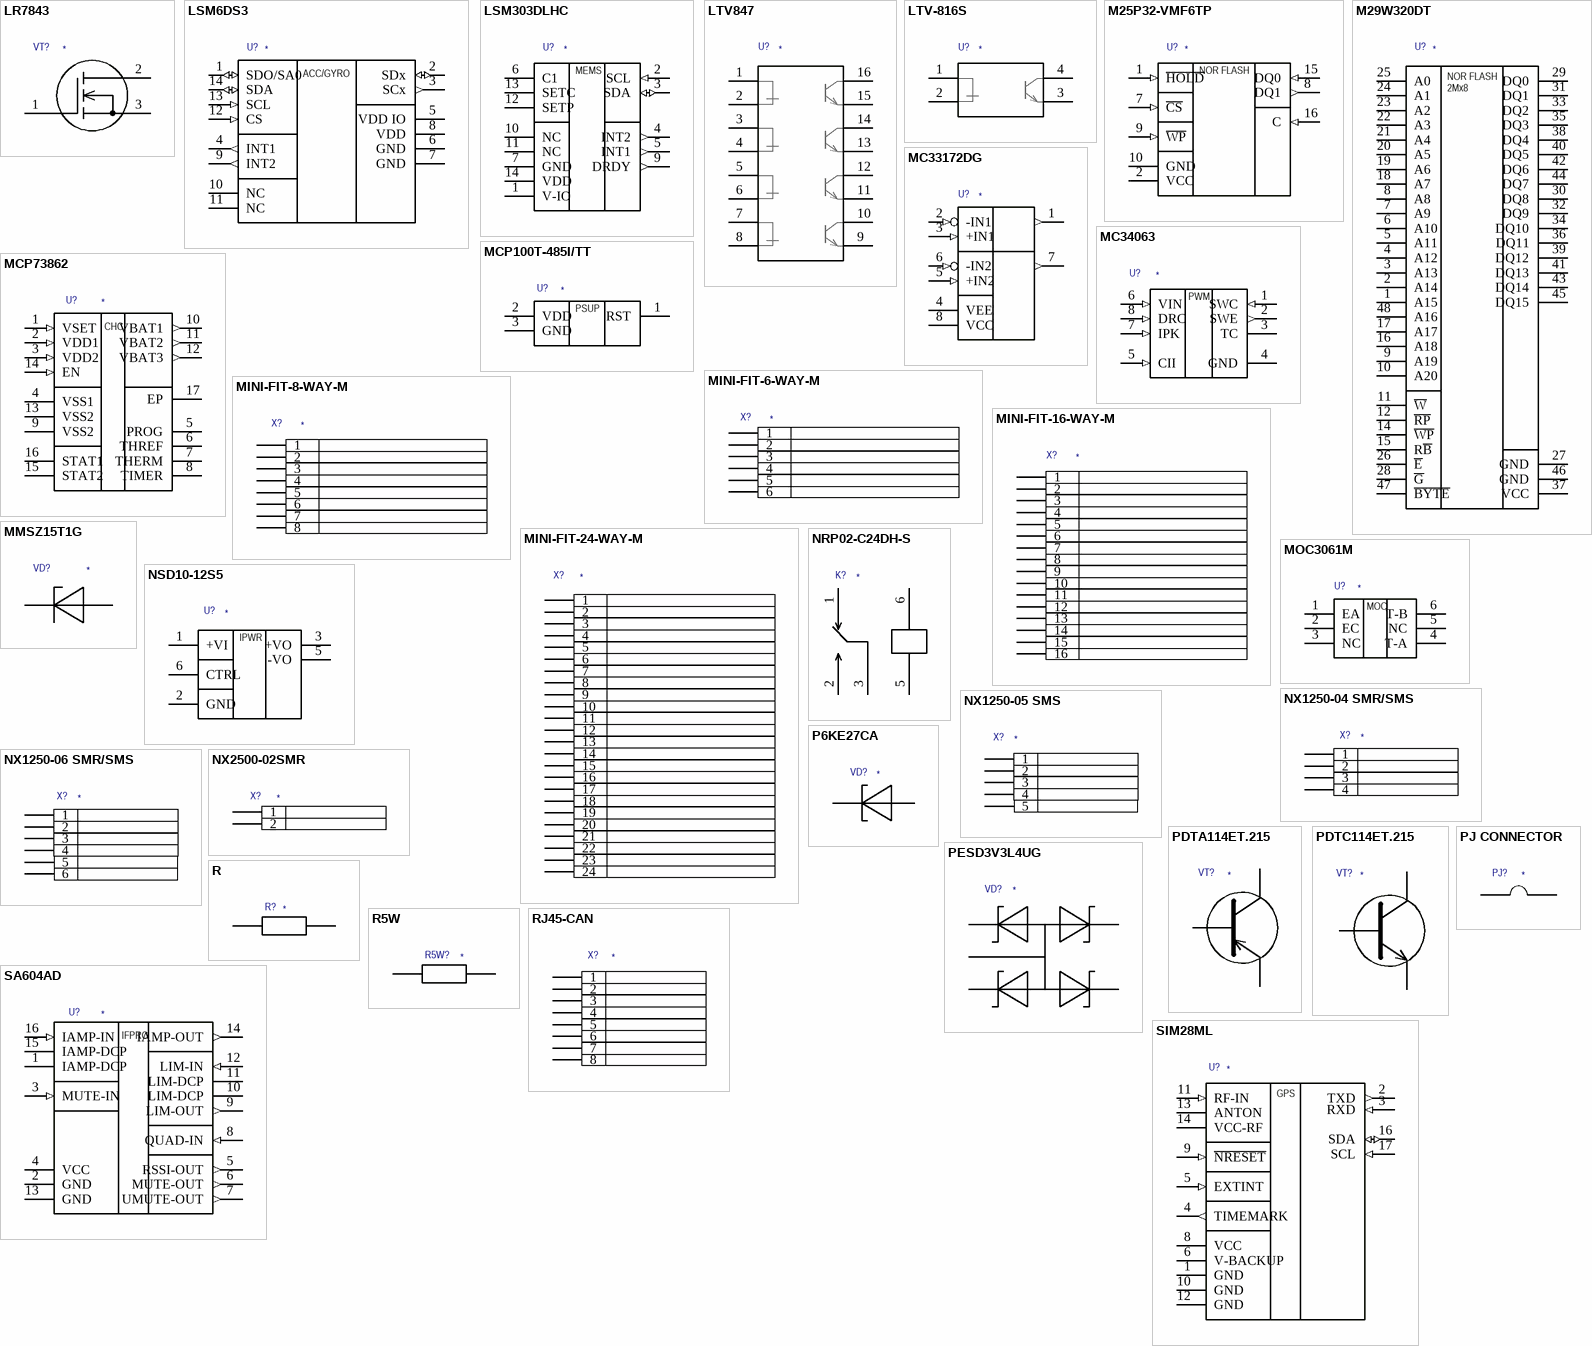
[diagram p3: symbols LR7843 to SIM28ML]

## LR7843
designator VT?
MOSFET
footprint DPAK230P972X240-3N (D-PAK, 3-Pads, Body 6.20x6.66mm (max), IPC Medium Density)
pins: 1 G (power), 2 D (power), 3 S (power)

## LSM6DS3
designator U?
iNEMO inertial module
footprint PQFN50P300X250X86-14N (PQFN, 14-Leads, Body 3,00x2,50mm, Pitch 0,50mm, IPC Medium Density)
pins: 1 SDO/SA0 (io), 2 SDx (io), 3 SCx (out), 4 INT1 (out), 5 VDD IO (power), 6 GND (power), 7 GND (power), 8 VDD (power), 9 INT2 (out), 10 NC, 11 NC, 12 CS (in), 13 SCL (in), 14 SDA (io)
text: ACC/GYRO

## LSM303DLHC
designator U?
MEMS compass
footprint PQFN80P300X500X100-14N (PQFN, 14-Leads, Body 3,00x5,00mm, Pitch 1,00mm/0,80mm, IPC Medium Density)
pins: 1 V-IO, 2 SCL (in), 3 SDA (io), 4 INT2 (out), 5 INT1 (out), 6 C1, 7 GND, 9 DRDY (out), 10 NC, 11 NC, 12 SETP, 13 SETC, 14 VDD
text: MEMS

## LTV847
designator U?
Оптопара 4 канала
footprint DIP16
pins: 1, 2, 3, 4, 5, 6, 7, 8, 9, 10, 11, 12, 13, 14, 15, 16

## LTV-816S
designator U?
Оптопара
footprint SOP254P1020X350-4N (SOP, 4-Leads, Body 4,60x6,50mm, Pitch 2,54mm, IPC Medium Density)
pins: 1, 2, 3, 4

## M25P32-VMF6TP
designator U?
FLASH-NOR serial EPROM
footprint SOP127P1030X265-16N (SOP, 16-Leads, Body 10,30x7,50mm, Pitch 1,27mm, IPC Medium Density)
pins: 1 ~{HOLD} (in), 2 VCC, 7 ~{CS} (in), 8 DQ1 (out), 9 ~{WP} (in), 10 GND, 15 DQ0 (in), 16 C (in)
text: NOR FLASH

## M29W320DT
designator U?
FLASH-NOR микросхема памяти 2Mx16
footprint TSSOP50P2000X120-48N (TSSOP, 48-Leads, Body 12,05x18,45mm, Pitch 0,50mm, IPC Medium Density)
pins: 1 A15, 2 A14, 3 A13, 4 A12, 5 A11, 6 A10, 7 A9, 8 A8, 9 A19, 10 A20, 11 ~{W}, 12 ~{RP}, 14 ~{WP}, 15 R~{B}, 16 A18, 17 A17, 18 A7, 19 A6, 20 A5, 21 A4, 22 A3, 23 A2, 24 A1, 25 A0, 26 ~{E}, 27 GND, 28 ~{G}, 29 DQ0, 30 DQ8, 31 DQ1, 32 DQ9, 33 DQ2, 34 DQ10, 35 DQ3, 36 DQ11, 37 VCC, 38 DQ4, 39 DQ12, 40 DQ5, 41 DQ13, 42 DQ6, 43 DQ14, 44 DQ7, 45 DQ15, 46 GND, 47 ~{BYTE}, 48 A16
text: NOR FLASH; 2Mx8

## MC33172DG
designator U?
Сдвоенный биполярный ОУ
footprint SOIC127P600X175-8N (SOIC, 8-Leads, Body 4,90x3,90mm, Pitch 1,27mm, IPC Medium Density)
pins: 1 OUT1 (out), 2 -IN1 (in), 3 +IN1 (in), 4 VEE (power), 5 +IN2 (in), 6 -IN2 (in), 7 OUT2 (out), 8 VCC (power)

## MC34063
designator U?
footprint SOIC127P600X175-8N (SOIC, 8-Leads, Body 4,90x3,90mm, Pitch 1,27mm, IPC Medium Density)
pins: 1 SWC (in), 2 SWE (out), 3 TC, 4 GND (power), 5 CII (in), 6 VIN (in), 7 IPK (in), 8 DRC (in)
text: PWM

## MCP100T-485I/TT
designator U?
footprint SOT95P237X112-3N (SOT23, 3-Leads, Body 2,92x2,37mm, Pitch 0,95mm, IPC Medium Density)
pins: 1 RST, 2 VDD, 3 GND
text: PSUP

## MCP73862
designator U?
Charge supervisor
footprint QFN65P400X400X80_HS-17N (QFN, 16-Leads, Body 4,00x4,00mm, Pitch 0,65mm, Thermal Pad 2,65x2,65mm, IPC Medium Density)
pins: 1 VSET (in), 2 VDD1 (in), 3 VDD2 (in), 4 VSS1, 5 PROG, 6 THREF, 7 THERM, 8 TIMER, 9 VSS2, 10 VBAT1 (out), 11 VBAT2 (out), 12 VBAT3 (out), 13 VSS2, 14 EN (in), 15 STAT2, 16 STAT1, 17 EP
text: CHC

## MINI-FIT-6-WAY-M
designator X?
footprint MINI-FIT-6WAY-SM
pins: 1, 2, 3, 4, 5, 6

## MINI-FIT-8-WAY-M
designator X?
footprint MINI-FIT-8-WAY-SM
pins: 1, 2, 3, 4, 5, 6, 7, 8

## MINI-FIT-16-WAY-M
designator X?
footprint MINI-FIT-16-WAY-M
pins: 1, 2, 3, 4, 5, 6, 7, 8, 9, 10, 11, 12, 13, 14, 15, 16

## MINI-FIT-24-WAY-M
designator X?
footprint MINI-FIT-24-WAY-M
footprint MINI-FIT-24-WAY-SM
pins: 1, 2, 3, 4, 5, 6, 7, 8, 9, 10, 11, 12, 13, 14, 15, 16, 17, 18, 19, 20, 21, 22, 23, 24

## MMSZ15T1G
designator VD?
Стабилитрон 15В
footprint SODFL370X135-2N (SODFL, 2-Leads, Body 1,55x3,70mm, IPC Medium Density)
pins: 1 K, 2 A

## MOC3061M
designator U?
Твердотельное реле
footprint DIP6
pins: 1 EA, 2 EC, 3 NC, 4 T-A, 5 NC, 6 T-B
text: MOC

## NRP02-C24DH-S
designator K?
Электромеханическое реле
footprint R_NRP02
pins: 1, 2, 3, 5, 6

## NSD10-12S5
designator U?
Изолированный источник питания
footprint NSD10-S
pins: 1 +VI (power), 2 GND (power), 3 +VO (power), 5 -VO (power), 6 CTRL
text: IPWR

## NX1250-04 SMR/SMS
designator X?
Разъем 4 PIN 1.25 MM; Ref: http://www.kosmodrom.com.ua/el.php?name=NX1250-04SMR
footprint NX1250-04SMR
footprint NX1250-04 SMS
pins: 1, 2, 3, 4

## NX1250-05 SMS
designator X?
footprint NX1250-05 SMS
pins: 1, 2, 3, 4, 5

## NX1250-06 SMR/SMS
designator X?
Разъем 6 PIN 1.25 mm
footprint NX1250-06SMR
pins: 1, 2, 3, 4, 5, 6

## NX2500-02SMR
designator X?
footprint NX2500-02SMR
pins: 1, 2

## P6KE27CA
designator VD?
Cупрессор; Ref: https://prom.ua/p207053054-p6ke27ca;all.html
footprint P6KE27CA
pins: A, K

## PDTA114ET.215
designator VT?
PNP transistor
footprint SOT95P238X102-3N (SOT23, 3-Leads, Body 2,93x2,38mm, Pitch 0,95mm, IPC Medium Density)
pins: 1 B (power), 2 E (power), 3 C (power)

## PDTC114ET.215
designator VT?
NPN transistor with bias circuit
footprint SOT95P238X102-3N (SOT23, 3-Leads, Body 2,93x2,38mm, Pitch 0,95mm, IPC Medium Density)
pins: 1 B (power), 2 E (power), 3 C (power)

## PESD3V3L4UG
designator VD?
ESD diode array
footprint SOT65P210X110-5N (SOT23, 5-Leads, Body 2,00x2,10mm, Pitch 0,65mm, IPC Medium Density)
pins: 1, 2, 3, 4, 5

## PJ CONNECTOR
designator PJ?
PJ connector
footprint PJ CONNECTOR
pins: 1, 2

## R
designator R?
SMD резистор; Ref: http://www.kosmodrom.com.ua/prodlist.php?name=res1206
footprint RESC3216X05N (Chip Resistor, 2-Leads, Body 3,20x1,60mm, IPC Medium Density)
footprint RESC2012X04N (Chip Resistor, 2-Leads, Body 2,00x1,20mm, IPC Medium Density)
footprint RESC1608X05N (Chip Resistor, 2-Leads, Body 1,60x0,80mm, IPC Medium Density)
footprint RESC6332X06N (Chip Resistor, 2-Leads, Body 6,35x3,20mm, IPC Medium Density)
pins: 1, 2

## R5W
designator R5W?
Резистор керамика 5 ватт; Ref: https://voron.ua/catalog/001676
footprint SQP-5W
pins: 1, 2

## RJ45-CAN
designator X?
CAN-Bus connector; Ref: http://www.kosmodrom.com.ua/el.php?name=TJ9S-8P8C
footprint RJ45-CAN
pins: 1, 2, 3, 4, 5, 6, 7, 8

## SA604AD
designator U?
IF processor
footprint SOP127P700X210-16N (SOP, 16-Leads, Body 10.30x4.40mm, Pitch 1.27mm, IPC Medium Density)
pins: 1 IAMP-DCP, 2 GND (power), 3 MUTE-IN (in), 4 VCC (power), 5 RSSI-OUT (out), 6 MUTE-OUT (out), 7 UMUTE-OUT (out), 8 QUAD-IN (in), 9 LIM-OUT (out), 10 LIM-DCP, 11 LIM-DCP, 12 LIM-IN (in), 13 GND, 14 IAMP-OUT (out), 15 IAMP-DCP, 16 IAMP-IN (in)
text: IFPRC

## SIM28ML
designator U?
GPS RECEIVER
footprint SIM28ML (GPS RECEIVER)
pins: 1 GND (power), 2 TXD (out), 3 RXD (in), 4 TIMEMARK (out), 5 EXTINT (in), 6 V-BACKUP (power), 8 VCC (power), 9 ~{NRESET} (in), 10 GND (power), 11 RF-IN (in), 12 GND (power), 13 ANTON (power), 14 VCC-RF (power), 16 SDA (io), 17 SCL (in)
text: GPS

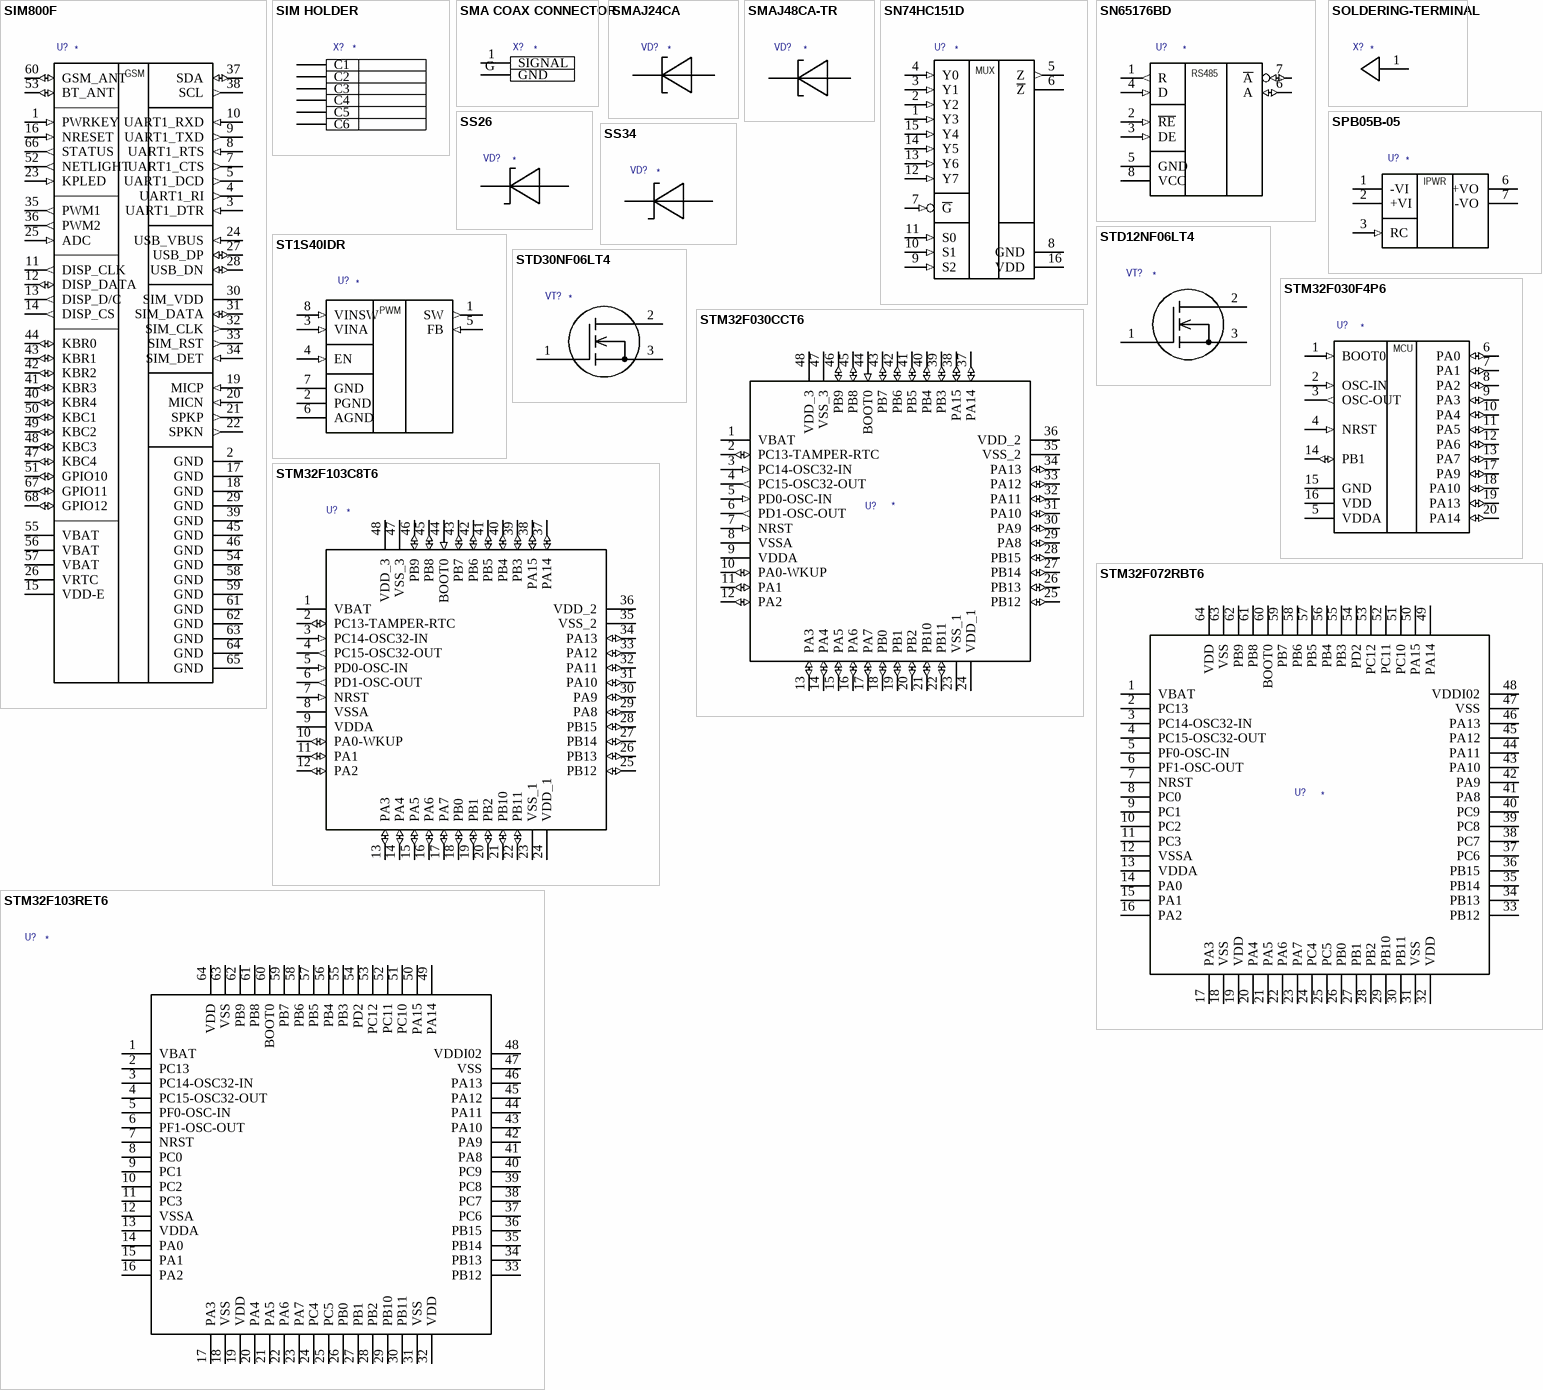
[diagram p4: symbols SIM800F to STM32F103RET6]

## SIM800F
designator U?
GSM modem
footprint SIM800F
pins: 1 PWRKEY (in), 2 GND (power), 3 UART1_DTR (in), 4 UART1_RI (out), 5 UART1_DCD (out), 7 UART1_CTS (out), 8 UART1_RTS (in), 9 UART1_TXD (out), 10 UART1_RXD (in), 11 DISP_CLK (out), 12 DISP_DATA (io), 13 DISP_D/C (out), 14 DISP_CS (out), 15 VDD-E (power), 16 NRESET (in), 17 GND (power), 18 GND (power), 19 MICP (in), 20 MICN (in), 21 SPKP (out), 22 SPKN (out), 23 KPLED (in), 24 USB_VBUS (in), 25 ADC (in), 26 VRTC (power), 27 USB_DP (io), 28 USB_DN (io), 29 GND (power), 30 SIM_VDD (power), 31 SIM_DATA (io), 32 SIM_CLK (out), 33 SIM_RST (out), 34 SIM_DET (in), 35 PWM1 (out), 36 PWM2 (out), 37 SDA (io), 38 SCL (out), 39 GND (power), 40 KBR4 (io), 41 KBR3 (io), 42 KBR2 (io), 43 KBR1 (io), 44 KBR0 (io), 45 GND (power), 46 GND (power), 47 KBC4 (io), 48 KBC3 (io), 49 KBC2 (io), 50 KBC1 (io), 51 GPIO10 (io), 52 NETLIGHT (out), 53 BT_ANT (io), 54 GND (power), 55 VBAT (power), 56 VBAT (power), 57 VBAT (power), 58 GND (power), 59 GND (power), 60 GSM_ANT (io), 61 GND (power), 62 GND (power), 63 GND (power), 64 GND (power), 65 GND (power), 66 STATUS (out), 67 GPIO11 (io), 68 GPIO12 (io)
text: GSM

## SIM HOLDER
designator X?
footprint SIM HOLDER
pins: C1, C2, C3, C4, C5, C6

## SMA COAX CONNECTOR
designator X?
footprint SMA CONNECTOR
pins: 1 SIGNAL, G GND

## SMAJ24CA
designator VD?
Супрессор; Ref: http://www.kosmodrom.com.ua/el.php?name=SMAJ24CA
footprint DIOM5126X25N (Molded Diode, 2-Leads, Body 5,07x2,57mm, IPC Medium Density)
pins: 1, 2

## SMAJ48CA-TR
designator VD?
Супрессор
footprint DIOM5126X25N (Molded Diode, 2-Leads, Body 5,07x2,57mm, IPC Medium Density)
pins: 1, 2

## SN74HC151D
designator U?
8 to 1 multiplexer
footprint SOP127P700X210-16N (SOP, 16-Leads, Body 10.30x4.40mm, Pitch 1.27mm, IPC Medium Density)
pins: 1 Y3 (in), 2 Y2 (in), 3 Y1 (in), 4 Y0 (in), 5 Z (out), 6 ~{Z} (power), 7 ~{G} (in), 8 GND (power), 9 S2 (in), 10 S1 (in), 11 S0 (in), 12 Y7 (in), 13 Y6 (in), 14 Y5 (in), 15 Y4 (in), 16 VDD (power)
text: MUX

## SN65176BD
designator U?
RS-485 line driver; Ref: http://www.kosmodrom.com.ua/prodlist.php?page=0&name=SN65176BD&okbutton=%CF%EE%E8%F1%EA+%EF%EE+%F1%EA%EB%E0%E4%F3
footprint SOIC127P600X175-8N (SOIC, 8-Leads, Body 4,90x3,90mm, Pitch 1,27mm, IPC Medium Density)
pins: 1 R (out), 2 ~{RE} (in), 3 DE (in), 4 D (in), 5 GND (power), 6 A (io), 7 ~{A} (io), 8 VCC (power)
text: RS485

## SOLDERING-TERMINAL
designator X?
footprint SoldTERMINAL
pins: 1 X

## SPB05B-05
designator U?
footprint SPB05B-05
pins: 1 -VI (power), 2 +VI (power), 3 RC (in), 6 +VO (power), 7 -VO (power)
text: IPWR

## SS26
designator VD?
диод Шоттки
footprint DIOM4336X21N (Molded Diode, 2-Leads, Body 4,31x3,62mm, IPC Medium Density)
pins: 1 C, 2 A

## SS34
designator VD?
Диод Шоттки; Ref: http://www.kosmodrom.com.ua/prodlist.php?page=0&name=SS34&okbutton=%CF%EE%E8%F1%EA+%EF%EE+%F1%EA%EB%E0%E4%F3
footprint DIOM6959X26N (Molded Diode, 2-Leads, Body 6,85x5,90mm, IPC Medium Density)
pins: 1 C, 2 A

## ST1S40IDR
designator U?
ШИМ регулятор напряжения; Ref: http://www.kosmodrom.com.ua/el.php?name=ST1S40IDR
footprint SOIC127P600X175-8N (SOIC, 8-Leads, Body 4,90x3,90mm, Pitch 1,27mm, IPC Medium Density)
pins: 1 SW (out), 2 PGND (power), 3 VINA (in), 4 EN (in), 5 FB (in), 6 AGND (power), 7 GND (power), 8 VINSW (in)
text: PWM

## STD12NF06LT4
designator VT?
N-MOSFET 60V 12A
footprint DPAK230P972X240-3N (D-PAK, 3-Pads, Body 6.20x6.66mm (max), IPC Medium Density)
pins: 1 G (power), 2 D (power), 3 S (power)

## STD30NF06LT4
designator VT?
MOSFET; Ref: http://www.kosmodrom.com.ua/el.php?name=STD30NF06LT4
footprint DPAK230P972X240-3N (D-PAK, 3-Pads, Body 6.20x6.66mm (max), IPC Medium Density)
pins: 1 G (power), 2 D (power), 3 S (power)

## STM32F030CCT6
designator U?
footprint TSQFP50P900X900X160-48N (TSQFP, 48-Leads, Body 7,00x7,00mm, Pitch 0,50mm, IPC Medium Density)
pins: 1 VBAT (power), 2 PC13-TAMPER-RTC (io), 3 PC14-OSC32-IN (in), 4 PC15-OSC32-OUT (out), 5 PD0-OSC-IN (in), 6 PD1-OSC-OUT (out), 7 NRST (in), 8 VSSA (power), 9 VDDA (power), 10 PA0-WKUP (io), 11 PA1 (io), 12 PA2 (io), 13 PA3 (io), 14 PA4 (io), 15 PA5 (io), 16 PA6 (io), 17 PA7 (io), 18 PB0 (io), 19 PB1 (io), 20 PB2 (io), 21 PB10 (io), 22 PB11 (io), 23 VSS_1 (power), 24 VDD_1 (power), 25 PB12 (io), 26 PB13 (io), 27 PB14 (io), 28 PB15 (io), 29 PA8 (io), 30 PA9 (io), 31 PA10 (io), 32 PA11 (io), 33 PA12 (io), 34 PA13 (io), 35 VSS_2 (power), 36 VDD_2 (power), 37 PA14 (io), 38 PA15 (io), 39 PB3 (io), 40 PB4 (io), 41 PB5 (io), 42 PB6 (io), 43 PB7 (io), 44 BOOT0 (in), 45 PB8 (io), 46 PB9 (io), 47 VSS_3 (power), 48 VDD_3 (power)

## STM32F030F4P6
designator U?
Low cost microcontroller
footprint TSOP65P640X120-20N (TSOP, 20-Leads, Body 6,50x4,40mm, Pitch 0,65mm, IPC Medium Density)
pins: 1 BOOT0 (in), 2 OSC-IN (in), 3 OSC-OUT (out), 4 NRST (in), 5 VDDA (power), 6 PA0 (io), 7 PA1 (io), 8 PA2 (io), 9 PA3 (io), 10 PA4 (io), 11 PA5 (io), 12 PA6 (io), 13 PA7 (io), 14 PB1 (io), 15 GND (power), 16 VDD (power), 17 PA9 (io), 18 PA10 (io), 19 PA13 (io), 20 PA14 (io)
text: MCU

## STM32F072RBT6
designator U?
Микроконтроллер
footprint TSQFP50P1200X1200X160-64N (TSQFP, 64-Leads, Body 10,00x10,00mm, Pitch 0,50mm, IPC Medium Density)
pins: 1 VBAT, 2 PC13, 3 PC14-OSC32-IN, 4 PC15-OSC32-OUT, 5 PF0-OSC-IN, 6 PF1-OSC-OUT, 7 NRST, 8 PC0, 9 PC1, 10 PC2, 11 PC3, 12 VSSA, 13 VDDA, 14 PA0, 15 PA1, 16 PA2, 17 PA3, 18 VSS, 19 VDD, 20 PA4, 21 PA5, 22 PA6, 23 PA7, 24 PC4, 25 PC5, 26 PB0, 27 PB1, 28 PB2, 29 PB10, 30 PB11, 31 VSS, 32 VDD, 33 PB12, 34 PB13, 35 PB14, 36 PB15, 37 PC6, 38 PC7, 39 PC8, 40 PC9, 41 PA8, 42 PA9, 43 PA10, 44 PA11, 45 PA12, 46 PA13, 47 VSS, 48 VDDI02, 49 PA14, 50 PA15, 51 PC10, 52 PC11, 53 PC12, 54 PD2, 55 PB3, 56 PB4, 57 PB5, 58 PB6, 59 PB7, 60 BOOT0, 61 PB8, 62 PB9, 63 VSS, 64 VDD

## STM32F103C8T6
designator U?
footprint TSQFP50P900X900X160-48N (TSQFP, 48-Leads, Body 7,00x7,00mm, Pitch 0,50mm, IPC Medium Density)
pins: 1 VBAT (power), 2 PC13-TAMPER-RTC (io), 3 PC14-OSC32-IN (in), 4 PC15-OSC32-OUT (out), 5 PD0-OSC-IN (in), 6 PD1-OSC-OUT (out), 7 NRST (in), 8 VSSA (power), 9 VDDA (power), 10 PA0-WKUP (io), 11 PA1 (io), 12 PA2 (io), 13 PA3 (io), 14 PA4 (io), 15 PA5 (io), 16 PA6 (io), 17 PA7 (io), 18 PB0 (io), 19 PB1 (io), 20 PB2 (io), 21 PB10 (io), 22 PB11 (io), 23 VSS_1 (power), 24 VDD_1 (power), 25 PB12 (io), 26 PB13 (io), 27 PB14 (io), 28 PB15 (io), 29 PA8 (io), 30 PA9 (io), 31 PA10 (io), 32 PA11 (io), 33 PA12 (io), 34 PA13 (io), 35 VSS_2 (power), 36 VDD_2 (power), 37 PA14 (io), 38 PA15 (io), 39 PB3 (io), 40 PB4 (io), 41 PB5 (io), 42 PB6 (io), 43 PB7 (io), 44 BOOT0 (in), 45 PB8 (io), 46 PB9 (io), 47 VSS_3 (power), 48 VDD_3 (power)

## STM32F103RET6
designator U?
Microcontroller ARM M3
footprint TSQFP50P1200X1200X160-64N (TSQFP, 64-Leads, Body 10,00x10,00mm, Pitch 0,50mm, IPC Medium Density)
pins: 1 VBAT, 2 PC13, 3 PC14-OSC32-IN, 4 PC15-OSC32-OUT, 5 PF0-OSC-IN, 6 PF1-OSC-OUT, 7 NRST, 8 PC0, 9 PC1, 10 PC2, 11 PC3, 12 VSSA, 13 VDDA, 14 PA0, 15 PA1, 16 PA2, 17 PA3, 18 VSS, 19 VDD, 20 PA4, 21 PA5, 22 PA6, 23 PA7, 24 PC4, 25 PC5, 26 PB0, 27 PB1, 28 PB2, 29 PB10, 30 PB11, 31 VSS, 32 VDD, 33 PB12, 34 PB13, 35 PB14, 36 PB15, 37 PC6, 38 PC7, 39 PC8, 40 PC9, 41 PA8, 42 PA9, 43 PA10, 44 PA11, 45 PA12, 46 PA13, 47 VSS, 48 VDDI02, 49 PA14, 50 PA15, 51 PC10, 52 PC11, 53 PC12, 54 PD2, 55 PB3, 56 PB4, 57 PB5, 58 PB6, 59 PB7, 60 BOOT0, 61 PB8, 62 PB9, 63 VSS, 64 VDD

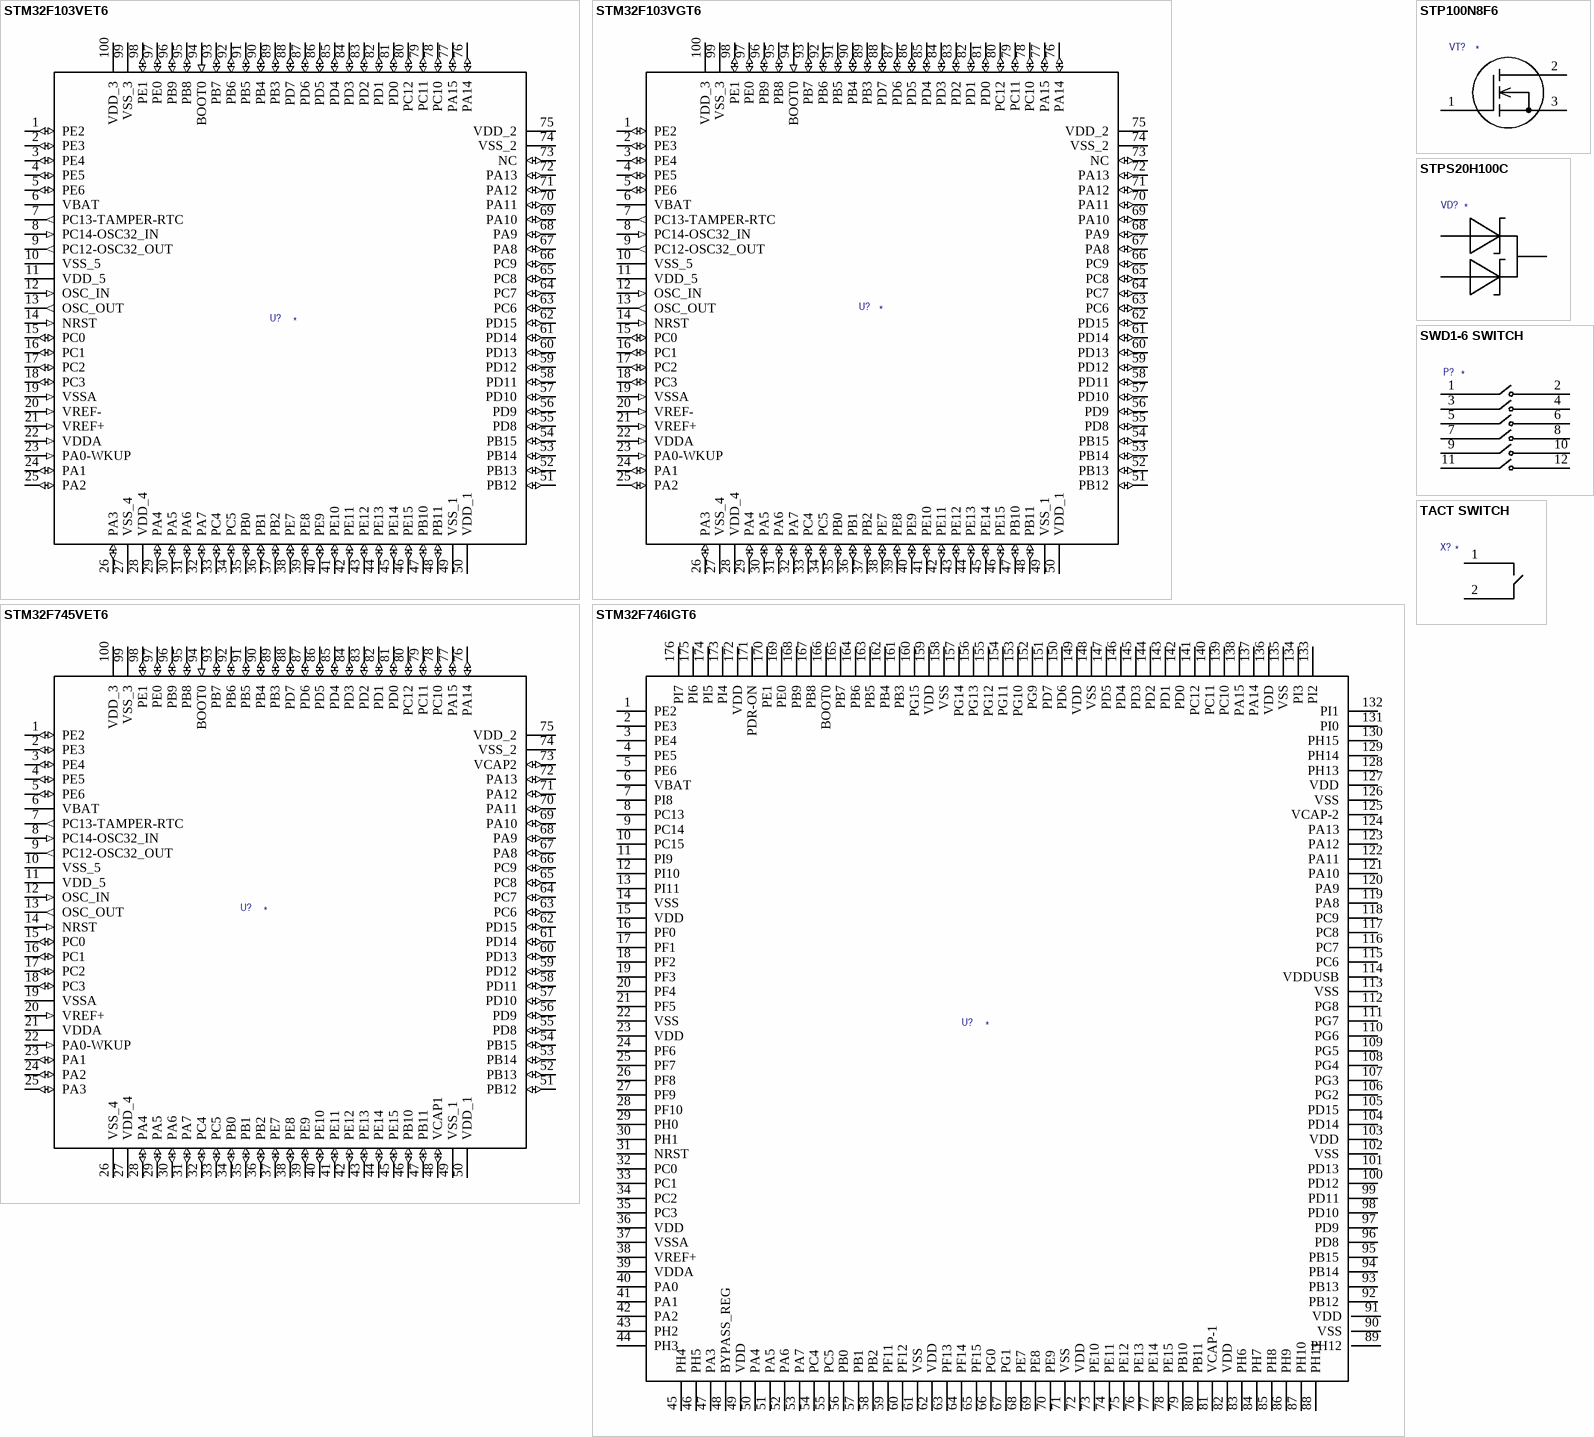
[diagram p5: symbols STM32F103VET6 to TACT SWITCH]

## STM32F103VET6
designator U?
Микроконтроллер; Ref: http://www.kosmodrom.com.ua/el.php?name=STM32F103VET6
footprint TSQFP50P1600X1600X160-100N (TSQFP, 100-Leads, Body 14,00x14,00mm, Pitch 0,50mm, IPC Medium Density)
pins: 1 PE2 (io), 2 PE3 (io), 3 PE4 (io), 4 PE5 (io), 5 PE6 (io), 6 VBAT (power), 7 PC13-TAMPER-RTC (out), 8 PC14-OSC32_IN (in), 9 PC12-OSC32_OUT (out), 10 VSS_5 (power), 11 VDD_5 (power), 12 OSC_IN (in), 13 OSC_OUT (out), 14 NRST (in), 15 PC0 (io), 16 PC1 (io), 17 PC2 (io), 18 PC3 (io), 19 VSSA (in), 20 VREF- (in), 21 VREF+ (in), 22 VDDA (in), 23 PA0-WKUP (in), 24 PA1 (io), 25 PA2 (io), 26 PA3 (io), 27 VSS_4 (power), 28 VDD_4 (power), 29 PA4 (io), 30 PA5 (io), 31 PA6 (io), 32 PA7 (io), 33 PC4 (io), 34 PC5 (io), 35 PB0 (io), 36 PB1 (io), 37 PB2 (io), 38 PE7 (io), 39 PE8 (io), 40 PE9 (io), 41 PE10 (io), 42 PE11 (io), 43 PE12 (io), 44 PE13 (io), 45 PE14 (io), 46 PE15 (io), 47 PB10 (io), 48 PB11 (io), 49 VSS_1 (power), 50 VDD_1 (power), 51 PB12 (io), 52 PB13 (io), 53 PB14 (io), 54 PB15 (io), 55 PD8 (io), 56 PD9 (io), 57 PD10 (io), 58 PD11 (io), 59 PD12 (io), 60 PD13 (io), 61 PD14 (io), 62 PD15 (io), 63 PC6 (io), 64 PC7 (io), 65 PC8 (io), 66 PC9 (io), 67 PA8 (io), 68 PA9 (io), 69 PA10 (io), 70 PA11 (io), 71 PA12 (io), 72 PA13 (io), 73 NC (io), 74 VSS_2 (power), 75 VDD_2 (power), 76 PA14 (io), 77 PA15 (io), 78 PC10 (io), 79 PC11 (io), 80 PC12 (io), 81 PD0 (io), 82 PD1 (io), 83 PD2 (io), 84 PD3 (io), 85 PD4 (io), 86 PD5 (io), 87 PD6 (io), 88 PD7 (io), 89 PB3 (io), 90 PB4 (io), 91 PB5 (io), 92 PB6 (io), 93 PB7 (io), 94 BOOT0 (in), 95 PB8 (io), 96 PB9 (io), 97 PE0 (io), 98 PE1 (io), 99 VSS_3 (power), 100 VDD_3 (power)

## STM32F103VGT6
designator U?
Микроконтроллер; Ref: http://www.kosmodrom.com.ua/el.php?name=STM32F103VGT6
footprint TSQFP50P1600X1600X160-100N (TSQFP, 100-Leads, Body 14,00x14,00mm, Pitch 0,50mm, IPC Medium Density)
pins: 1 PE2 (io), 2 PE3 (io), 3 PE4 (io), 4 PE5 (io), 5 PE6 (io), 6 VBAT (power), 7 PC13-TAMPER-RTC (out), 8 PC14-OSC32_IN (in), 9 PC12-OSC32_OUT (out), 10 VSS_5 (power), 11 VDD_5 (power), 12 OSC_IN (in), 13 OSC_OUT (out), 14 NRST (in), 15 PC0 (io), 16 PC1 (io), 17 PC2 (io), 18 PC3 (io), 19 VSSA (in), 20 VREF- (in), 21 VREF+ (in), 22 VDDA (in), 23 PA0-WKUP (in), 24 PA1 (io), 25 PA2 (io), 26 PA3 (io), 27 VSS_4 (power), 28 VDD_4 (power), 29 PA4 (io), 30 PA5 (io), 31 PA6 (io), 32 PA7 (io), 33 PC4 (io), 34 PC5 (io), 35 PB0 (io), 36 PB1 (io), 37 PB2 (io), 38 PE7 (io), 39 PE8 (io), 40 PE9 (io), 41 PE10 (io), 42 PE11 (io), 43 PE12 (io), 44 PE13 (io), 45 PE14 (io), 46 PE15 (io), 47 PB10 (io), 48 PB11 (io), 49 VSS_1 (power), 50 VDD_1 (power), 51 PB12 (io), 52 PB13 (io), 53 PB14 (io), 54 PB15 (io), 55 PD8 (io), 56 PD9 (io), 57 PD10 (io), 58 PD11 (io), 59 PD12 (io), 60 PD13 (io), 61 PD14 (io), 62 PD15 (io), 63 PC6 (io), 64 PC7 (io), 65 PC8 (io), 66 PC9 (io), 67 PA8 (io), 68 PA9 (io), 69 PA10 (io), 70 PA11 (io), 71 PA12 (io), 72 PA13 (io), 73 NC (io), 74 VSS_2 (power), 75 VDD_2 (power), 76 PA14 (io), 77 PA15 (io), 78 PC10 (io), 79 PC11 (io), 80 PC12 (io), 81 PD0 (io), 82 PD1 (io), 83 PD2 (io), 84 PD3 (io), 85 PD4 (io), 86 PD5 (io), 87 PD6 (io), 88 PD7 (io), 89 PB3 (io), 90 PB4 (io), 91 PB5 (io), 92 PB6 (io), 93 PB7 (io), 94 BOOT0 (in), 95 PB8 (io), 96 PB9 (io), 97 PE0 (io), 98 PE1 (io), 99 VSS_3 (power), 100 VDD_3 (power)

## STM32F745VET6
designator U?
ARM7 microcontroller
footprint TSQFP50P1600X1600X160-100N (TSQFP, 100-Leads, Body 14,00x14,00mm, Pitch 0,50mm, IPC Medium Density)
pins: 1 PE2 (io), 2 PE3 (io), 3 PE4 (io), 4 PE5 (io), 5 PE6 (io), 6 VBAT (power), 7 PC13-TAMPER-RTC (out), 8 PC14-OSC32_IN (in), 9 PC12-OSC32_OUT (out), 10 VSS_5 (power), 11 VDD_5 (power), 12 OSC_IN (in), 13 OSC_OUT (out), 14 NRST (in), 15 PC0 (io), 16 PC1 (io), 17 PC2 (io), 18 PC3 (io), 19 VSSA (power), 20 VREF+ (in), 21 VDDA (power), 22 PA0-WKUP (in), 23 PA1 (io), 24 PA2 (io), 25 PA3 (io), 26 VSS_4 (power), 27 VDD_4 (power), 28 PA4 (io), 29 PA5 (io), 30 PA6 (io), 31 PA7 (io), 32 PC4 (io), 33 PC5 (io), 34 PB0 (io), 35 PB1 (io), 36 PB2 (io), 37 PE7 (io), 38 PE8 (io), 39 PE9 (io), 40 PE10 (io), 41 PE11 (io), 42 PE12 (io), 43 PE13 (io), 44 PE14 (io), 45 PE15 (io), 46 PB10 (io), 47 PB11 (io), 48 VCAP1 (io), 49 VSS_1 (power), 50 VDD_1 (power), 51 PB12 (io), 52 PB13 (io), 53 PB14 (io), 54 PB15 (io), 55 PD8 (io), 56 PD9 (io), 57 PD10 (io), 58 PD11 (io), 59 PD12 (io), 60 PD13 (io), 61 PD14 (io), 62 PD15 (io), 63 PC6 (io), 64 PC7 (io), 65 PC8 (io), 66 PC9 (io), 67 PA8 (io), 68 PA9 (io), 69 PA10 (io), 70 PA11 (io), 71 PA12 (io), 72 PA13 (io), 73 VCAP2 (io), 74 VSS_2 (power), 75 VDD_2 (power), 76 PA14 (io), 77 PA15 (io), 78 PC10 (io), 79 PC11 (io), 80 PC12 (io), 81 PD0 (io), 82 PD1 (io), 83 PD2 (io), 84 PD3 (io), 85 PD4 (io), 86 PD5 (io), 87 PD6 (io), 88 PD7 (io), 89 PB3 (io), 90 PB4 (io), 91 PB5 (io), 92 PB6 (io), 93 PB7 (io), 94 BOOT0 (in), 95 PB8 (io), 96 PB9 (io), 97 PE0 (io), 98 PE1 (io), 99 VSS_3 (power), 100 VDD_3 (power)

## STM32F746IGT6
designator U?
Микроконтроллер
footprint TSQFP50P2600X2600X160-176L (TSQFP, 176-Leads, Body 24.00x24.00mm, Pitch 0.50mm, IPC High Density)
pins: 1 PE2, 2 PE3, 3 PE4, 4 PE5, 5 PE6, 6 VBAT, 7 PI8, 8 PC13, 9 PC14, 10 PC15, 11 PI9, 12 PI10, 13 PI11, 14 VSS, 15 VDD, 16 PF0, 17 PF1, 18 PF2, 19 PF3, 20 PF4, 21 PF5, 22 VSS, 23 VDD, 24 PF6, 25 PF7, 26 PF8, 27 PF9, 28 PF10, 29 PH0, 30 PH1, 31 NRST, 32 PC0, 33 PC1, 34 PC2, 35 PC3, 36 VDD, 37 VSSA, 38 VREF+, 39 VDDA, 40 PA0, 41 PA1, 42 PA2, 43 PH2, 44 PH3, 45 PH4, 46 PH5, 47 PA3, 48 BYPASS_REG, 49 VDD, 50 PA4, 51 PA5, 52 PA6, 53 PA7, 54 PC4, 55 PC5, 56 PB0, 57 PB1, 58 PB2, 59 PF11, 60 PF12, 61 VSS, 62 VDD, 63 PF13, 64 PF14, 65 PF15, 66 PG0, 67 PG1, 68 PE7, 69 PE8, 70 PE9, 71 VSS, 72 VDD, 73 PE10, 74 PE11, 75 PE12, 76 PE13, 77 PE14, 78 PE15, 79 PB10, 80 PB11, 81 VCAP-1, 82 VDD, 83 PH6, 84 PH7, 85 PH8, 86 PH9, 87 PH10, 88 PH11, 89 PH12, 90 VSS, 91 VDD, 92 PB12, 93 PB13, 94 PB14, 95 PB15, 96 PD8, 97 PD9, 98 PD10, 99 PD11, 100 PD12, 101 PD13, 102 VSS, 103 VDD, 104 PD14, 105 PD15, 106 PG2, 107 PG3, 108 PG4, 109 PG5, 110 PG6, 111 PG7, 112 PG8, 113 VSS, 114 VDDUSB, 115 PC6, 116 PC7, 117 PC8, 118 PC9, 119 PA8, 120 PA9, 121 PA10, 122 PA11, 123 PA12, 124 PA13, 125 VCAP-2, 126 VSS, 127 VDD, 128 PH13, 129 PH14, 130 PH15, 131 PI0, 132 PI1, 133 PI2, 134 PI3, 135 VSS, 136 VDD, 137 PA14, 138 PA15, 139 PC10, 140 PC11, 141 PC12, 142 PD0, 143 PD1, 144 PD2, 145 PD3, 146 PD4, 147 PD5, 148 VSS, 149 VDD, 150 PD6, 151 PD7, 152 PG9, 153 PG10, 154 PG11, 155 PG12, 156 PG13, 157 PG14, 158 VSS, 159 VDD, 160 PG15, 161 PB3, 162 PB4, 163 PB5, 164 PB6, 165 PB7, 166 BOOT0, 167 PB8, 168 PB9, 169 PE0, 170 PE1, 171 PDR-ON, 172 VDD, 173 PI4, 174 PI5, 175 PI6, 176 PI7

## STP100N8F6
designator VT?
MOSFET; Ref: http://www.kosmodrom.com.ua/el.php?name=STP100N8F6
footprint TO-220
pins: 1 G (power), 2 D (power), 3 S (power)

## STPS20H100C
designator VD?
Диод Шоттки
footprint DPAK230P972X240-3N (D-PAK, 3-Pads, Body 6.20x6.66mm (max), IPC Medium Density)
pins: 1 A1, 2 C, 3 A2

## SWD1-6 SWITCH
designator P?
footprint DIP-SWITCH-SWD1-5
pins: 1, 2, 3, 4, 5, 6, 7, 8, 9, 10, 11, 12

## TACT SWITCH
designator X?
footprint TACT SWITCH
pins: 1, 2

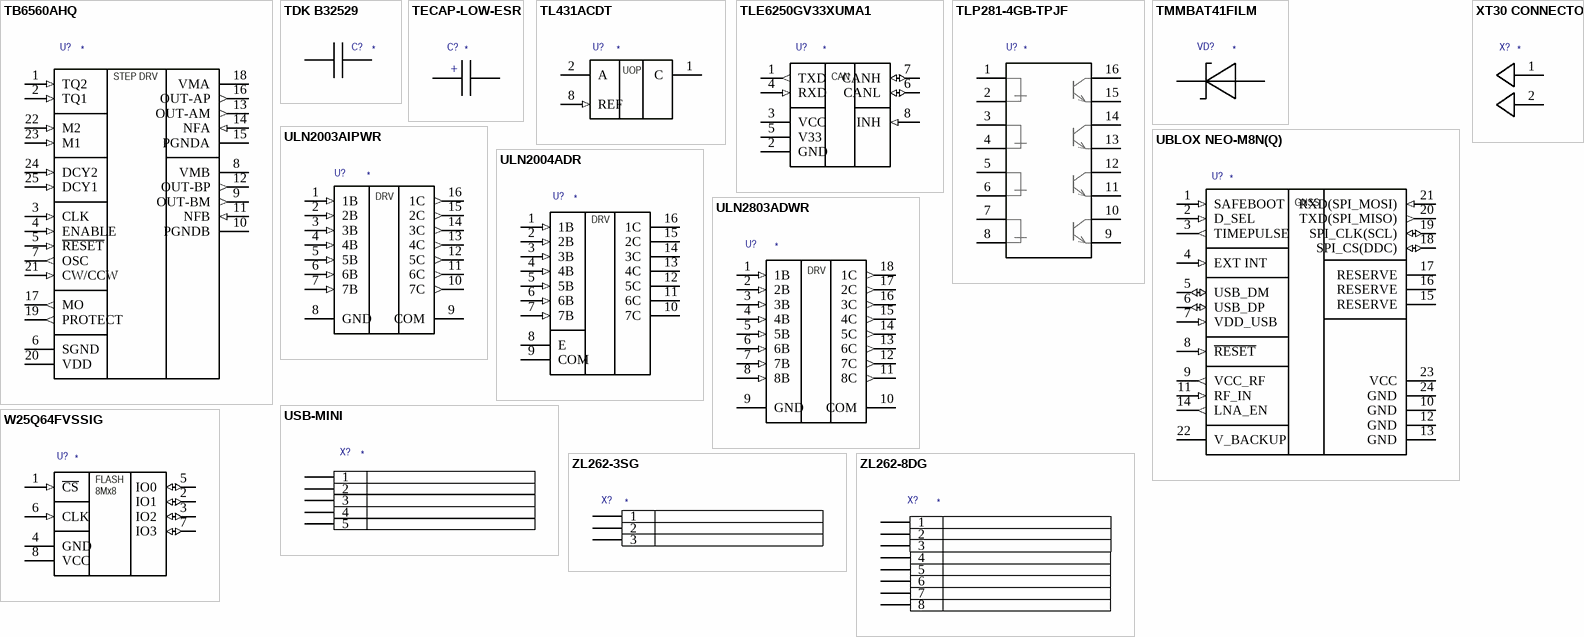
[diagram p6: symbols TB6560AHQ to ZL262-8DG]

## TB6560AHQ
designator U?
footprint HZIP25-P-1.27
pins: 1 TQ2 (in), 2 TQ1 (in), 3 CLK (in), 4 ENABLE (in), 5 ~{RESET} (in), 6 SGND (power), 7 OSC (out), 8 VMB (power), 9 OUT-BM (out), 10 PGNDB (power), 11 NFB (in), 12 OUT-BP (out), 13 OUT-AM (out), 14 NFA (in), 15 PGNDA (power), 16 OUT-AP (out), 17 MO (out), 18 VMA (power), 19 PROTECT (out), 20 VDD (power), 21 CW/CCW (in), 22 M2 (in), 23 M1 (in), 24 DCY2 (in), 25 DCY1 (in)
text: STEP DRV

## TDK B32529
designator C?
Capacitor
footprint TDK B32529
pins: 1, 2

## TECAP-LOW-ESR
designator C?
SMD LOW ESR танталовый конденсатор; Ref: http://www.kosmodrom.com.ua/prodlist.php?name=lowesr
footprint CAPMP3216X16N (Molded Capacitor, 2-Leads, Body 3,20x1,60mm, IPC Medium Density)
footprint CAPMP3528X19N (Molded Capacitor, 2-Leads, Body 3,50x2,80mm, IPC Medium Density)
footprint CAPMP6032X25N (Molded Capacitor, 2-Leads, Body 6,00x3,20mm, IPC Medium Density)
footprint CAPMP7343X28N (Molded Capacitor, 2-Leads, Body 7,30x4,30mm, IPC Medium Density)
pins: 1 +, 2

## TL431ACDT
designator U?
Генератор опорного напряжения
footprint SOIC127P600X175-8N (SOIC, 8-Leads, Body 4,90x3,90mm, Pitch 1,27mm, IPC Medium Density)
pins: 1 C, 2 A, 3 A, 6 A, 7 A, 8 REF (in)
text: UOP

## TLE6250GV33XUMA1
designator U?
CAN tranciever
footprint SOIC127P600X175-8N (SOIC, 8-Leads, Body 4,90x3,90mm, Pitch 1,27mm, IPC Medium Density)
pins: 1 TXD (out), 2 GND (power), 3 VCC (power), 4 RXD (in), 5 V33 (power), 6 CANL (io), 7 CANH (io), 8 INH (in)
text: CAN

## TLP281-4GB-TPJF
designator U?
Оптопара четырехканальная; Ref: http://www.kosmodrom.com.ua/el.php?name=TLP281-4GB-TPJF
footprint SOP127P700X210-16N (SOP, 16-Leads, Body 10.30x4.40mm, Pitch 1.27mm, IPC Medium Density)
pins: 1, 2, 3, 4, 5, 6, 7, 8, 9, 10, 11, 12, 13, 14, 15, 16

## TMMBAT41FILM
designator VD?
диод Шоттки
footprint DIOMELF3517N (MELF Diode, 2-Leads, Body 3,50x1,65mm, IPC Medium Density)
pins: 1 C, 2 A

## UBLOX NEO-M8N(Q)
designator U?
UBLOX GPS RECEIVER
footprint NEO-M8N(Q)
pins: 1 SAFEBOOT (in), 2 D_SEL (in), 3 TIMEPULSE (out), 4 EXT INT (in), 5 USB_DM (io), 6 USB_DP (io), 7 VDD_USB (in), 8 ~{RESET} (in), 9 VCC_RF (out), 10 GND (power), 11 RF_IN (in), 12 GND (power), 13 GND (power), 14 LNA_EN (out), 15 RESERVE (power), 16 RESERVE (power), 17 RESERVE (power), 18 SPI_CS(DDC) (io), 19 SPI_CLK(SCL) (io), 20 TXD(SPI_MISO) (out), 21 RXD(SPI_MOSI) (in), 22 V_BACKUP (power), 23 VCC (power), 24 GND (power)
text: GNSS

## ULN2003AIPWR
designator U?
footprint TSOP65P640X120-16N (TSOP, 16-Leads, Body 5.00x4.40mm, Pitch 0.65mm, IPC Medium Density)
pins: 1 1B (in), 2 2B (in), 3 3B (in), 4 4B (in), 5 5B (in), 6 6B (in), 7 7B (in), 8 GND (power), 9 COM (power), 10 7C (out), 11 6C (out), 12 5C (out), 13 4C (out), 14 3C (out), 15 2C (out), 16 1C (out)
text: DRV

## ULN2004ADR
designator U?
Драйвер периферийных устройств
footprint SOP127P700X210-16N (SOP, 16-Leads, Body 10.30x4.40mm, Pitch 1.27mm, IPC Medium Density)
pins: 1 1B (in), 2 2B (in), 3 3B (in), 4 4B (in), 5 5B (in), 6 6B (in), 7 7B (in), 8 E, 9 COM (power), 10 7C (oc), 11 6C (oc), 12 5C (oc), 13 4C (oc), 14 3C (oc), 15 2C (oc), 16 1C (oc)
text: DRV

## ULN2803ADWR
designator U?
8 Darlington transistors
footprint SOIC127P1030X265-18N (SOIC, 18-Leads, Body 11,55x7,50mm, Pitch 1,27mm, IPC Medium Density)
pins: 1 1B (in), 2 2B (in), 3 3B (in), 4 4B (in), 5 5B (in), 6 6B (in), 7 7B (in), 8 8B (in), 9 GND (power), 10 COM (power), 11 8C (out), 12 7C (out), 13 6C (out), 14 5C (out), 15 4C (out), 16 3C (out), 17 2C (out), 18 1C (out)
text: DRV

## USB-MINI
designator X?
Разъем USB-B розетка; Ref: http://www.kosmodrom.com.ua/el.php?name=229-5FB
footprint 229-5FB-MINI-USB
pins: 1, 2, 3, 4, 5

## W25Q64FVSSIG
designator U?
FLASH 8Mx8
footprint SOIC127P790X203-8N(WIDE) (SOIC, 8-Leads, Body 5,26x5,25mm, Pitch 1,27mm, IPC Medium Density)
pins: 1 ~{CS} (in), 2 IO1 (io), 3 IO2 (io), 4 GND (power), 5 IO0 (io), 6 CLK (in), 7 IO3 (io), 8 VCC (power)
text: FLASH; 8Mx8